# Altium integrated library Lattice FPGA ECP2.IntLib: 320 symbols (part 33 of 42)
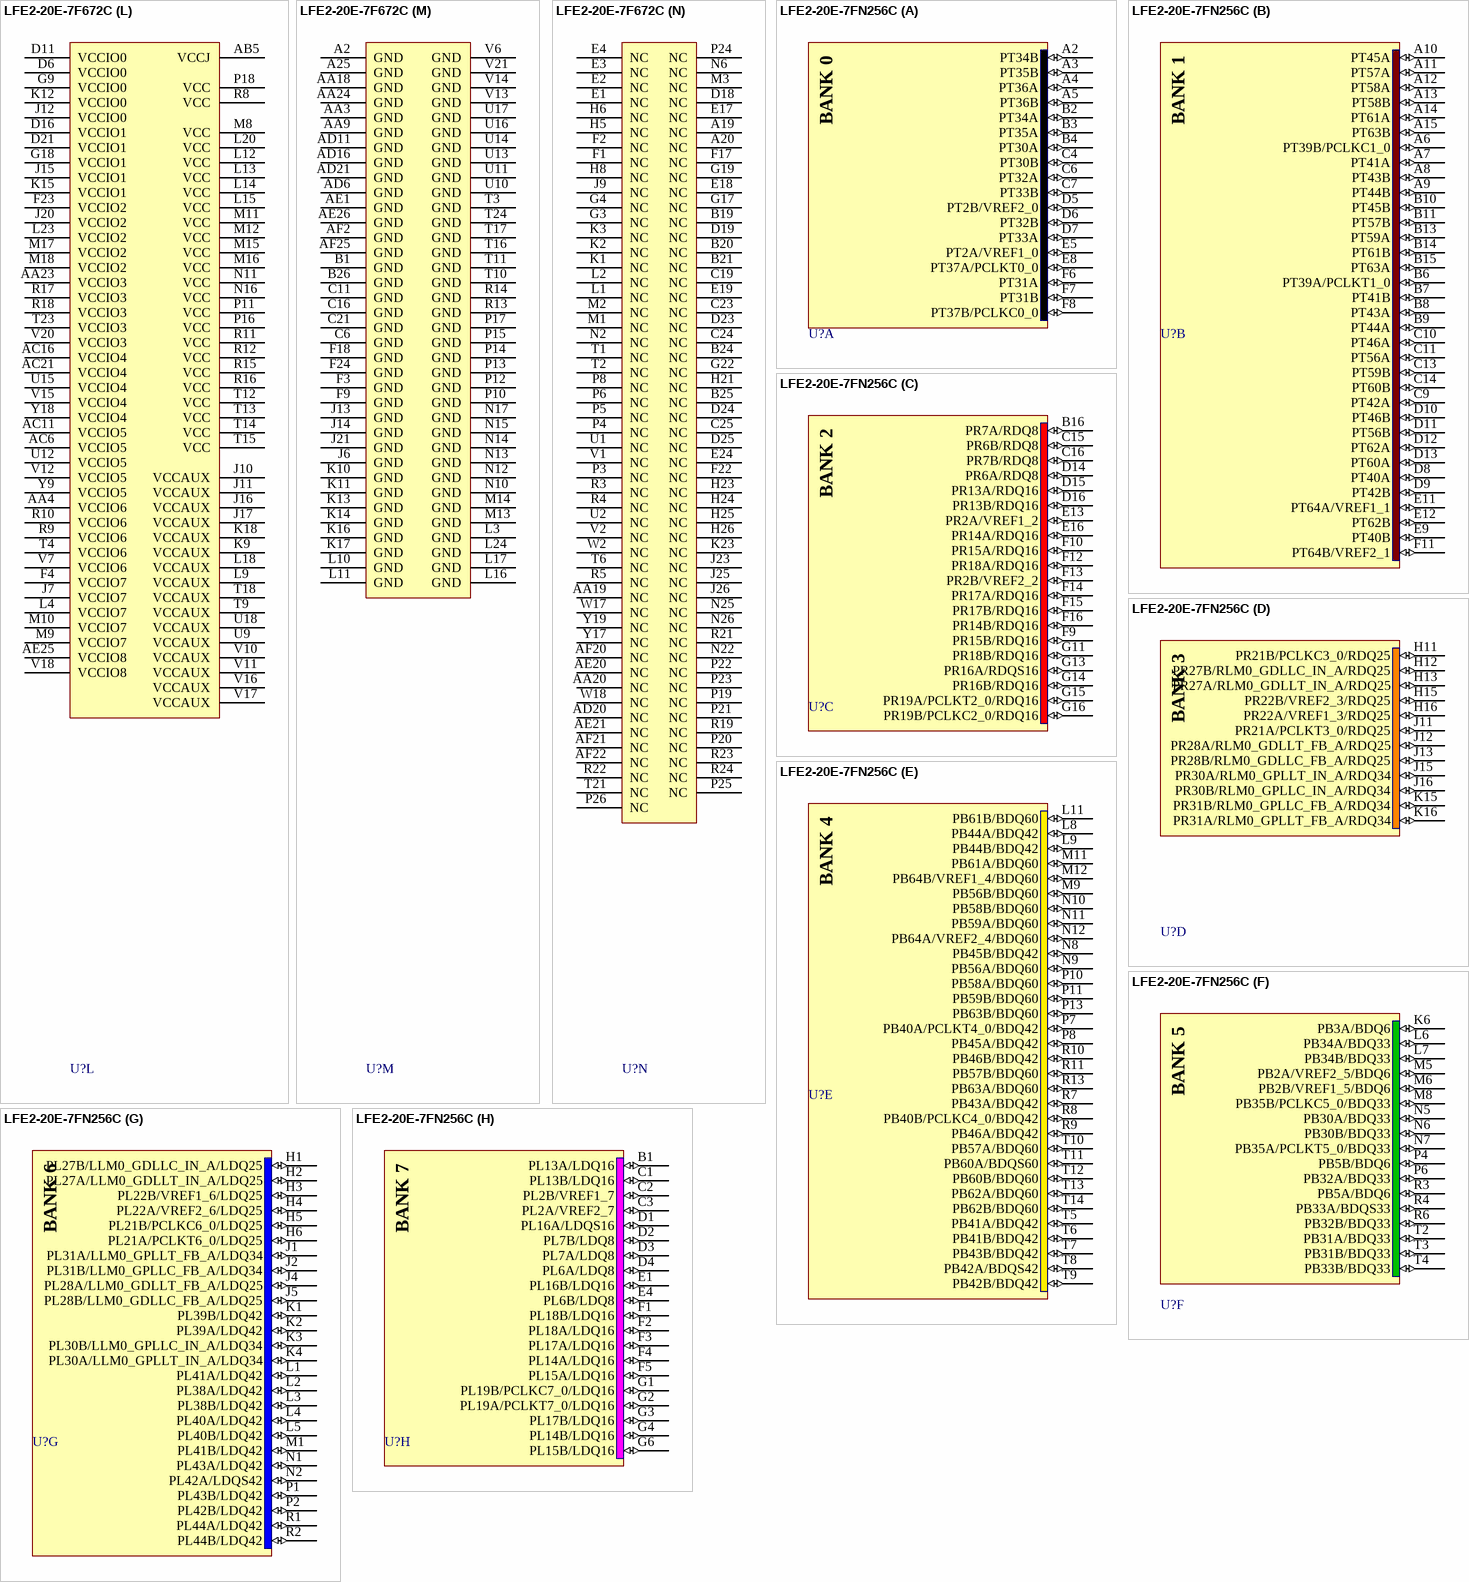
[diagram p419: symbols LFE2-20E-7F672C to LFE2-20E-7FN256C]

## LFE2-20E-7F672C
designator U?
ECP2 1.2V  FPGA, 402 I/Os, 20K LUTs, 672-Ball fpBGA, Speed Grade 7, Commercial Grade; Published: 22-Jan-2007; LatestRevisionDate: 30-Apr-2009; LatestRevisionNote: Pin names updated.; DatasheetVersion: ver04.3, Mar-2009; PackageVersion: ver01.8, Dec-2008; PackageReference: fpBGA672; Publisher: Altium Limited; PackageDescription: 672-Ball Fine Pitch Ball Grid Array (fpBGA672); ComponentLink1Description: Manufacturer Link; ComponentLink1URL: http://www.latticesemi.com/products/fpga/ecp2/index.cfm; ComponentLink2Description: Datasheet; ComponentLink2URL: http://www.latticesemi.com/documents/HB1003.pdf
footprint fpBGA672 (BGA, 672-Leads, Body 27x27mm, Pitch 1mm)
3D model LFE2-20E_F672 (672-Ball Fine Pitch Ball Grid Array (fpBGA672))
part A pins: A3 PT9A (io), A4 PT9B (io), A5 PT18B (io), A6 PT23B (io), A7 PT26B (io), A8 PT28B (io), A9 PT30B (io), A10 PT33B (io), A11 PT36B (io), B2 PT8A (io), B3 PT8B (io), B4 PT13B (io), B5 PT18A (io), B6 PT23A (io), B7 PT26A (io), B8 PT28A (io), B9 PT30A (io), B10 PT33A (io), B11 PT36A (io), C1 PT6A (io), C2 PT6B (io), C3 PT10A (io), C4 PT10B (io), C5 PT14B (io), C7 PT17B (io), C8 PT22A (io), C9 PT27A (io), C10 PT32A (io), C12 PT32B (io), C13 PT35B (io), D3 PT7A (io), D4 PT7B (io), D5 PT14A (io), D7 PT17A (io), D8 PT22B (io), D9 PT20A (io), D10 PT25A (io), D12 PT34B (io), E5 PT3A (io), E6 PT3B (io), E7 PT4B (io), E8 PT16B (io), E9 PT20B (io), E10 PT21A (io), E11 PT27B (io), E12 PT29B (io), E13 PT35A (io), F7 PT4A (io), F8 PT15B (io), F10 PT16A (io), F11 PT21B (io), F12 PT25B (io), F13 PT34A (io), G5 PT2A/VREF1_0 (io), G6 PT2B/VREF2_0 (io), G7 PT5A (io), G8 PT5B (io), G10 PT19B (io), G11 PT24A (io), G12 PT29A (io), G13 PT31B (io), H9 PT15A (io), H10 PT19A (io), H11 PT24B (io), H12 PT31A (io), H13 PT37A/PCLKT0_0 (io), H14 PT37B/PCLKC0_0 (io)
part B pins: A12 PT40B (io), A13 PT44B (io), A14 PT46B (io), A15 PT45A (io), A16 PT48B (io), A17 PT52B (io), A18 PT55A (io), A21 PT56A (io), A22 PT56B (io), A23 PT61A (io), A24 PT61B (io), B12 PT40A (io), B13 PT44A (io), B14 PT46A (io), B15 PT48A (io), B16 PT51A (io), B17 PT52A (io), B18 PT55B (io), B22 PT58B (io), B23 PT58A (io), C14 PT42A (io), C15 PT45B (io), C17 PT50B (io), C18 PT51B (io), C20 PT57B (io), C22 PT59B (io), D13 PT42B (io), D14 PT39A/PCLKT1_0 (io), D15 PT47B (io), D17 PT50A (io), D20 PT57A (io), D22 PT64A/VREF1_1 (io), E14 PT41A (io), E15 PT49B (io), E16 PT54B (io), E20 PT59A (io), E21 PT60B (io), E23 PT64B/VREF2_1 (io), F14 PT39B/PCLKC1_0 (io), F15 PT47A (io), F16 PT53B (io), F19 PT60A (io), F20 PT62B (io), G14 PT41B (io), G15 PT49A (io), G16 PT54A (io), G20 PT63B (io), H15 PT43A (io), H17 PT43B (io), H18 PT53A (io), H19 PT62A (io), J18 PT63A (io)
part C pins: C26 PR4A/RDQ8 (io), D26 PR4B/RDQ8 (io), E22 PR2B/VREF2_2 (io), E25 PR8A/RDQS8 (io), E26 PR8B/RDQ8 (io), F21 PR2A/VREF1_2 (io), F25 PR10A/RDQ8 (io), F26 PR10B/RDQ8 (io), G21 PR3B (io), G23 PR6A/RDQ8 (io), G24 PR6B/RDQ8 (io), G25 PR11A/RDQ8 (io), G26 PR11B/RDQ8 (io), H20 PR3A (io), H22 PR7A/RDQ8 (io), J19 PR5A/RDQ8 (io), J22 PR7B/RDQ8 (io), J24 PR12A/RDQ16 (io), K19 PR5B/RDQ8 (io), K20 PR9B/RDQ8 (io), K21 PR13B/RDQ16 (io), K22 PR18A/RDQ16 (io), K24 PR12B/RDQ16 (io), K25 PR16A/RDQS16 (io), K26 PR16B/RDQ16 (io), L19 PR9A/RDQ8 (io), L21 PR18B/RDQ16 (io), L22 PR14B/RDQ16 (io), M19 PR15A/RDQ16 (io), M20 PR15B/RDQ16 (io), M21 PR13A/RDQ16 (io), M22 PR14A/RDQ16 (io), M23 PR19A/PCLKT2_0/RDQ16 (io), M24 PR17B/RDQ16 (io), N23 PR17A/RDQ16 (io), N24 PR19B/PCLKC2_0/RDQ16 (io)
part D pins: AA26 PR36B/RDQ34 (io), L25 PR21A/PCLKT3_0/RDQ25 (io), L26 PR21B/PCLKC3_0/RDQ25 (io), M25 PR23A/RDQ25 (io), M26 PR23B/RDQ25 (io), N18 PR22B/VREF2_3/RDQ25 (io), N19 PR24B/RDQ25 (io), N20 PR24A/RDQ25 (io), N21 PR22A/VREF1_3/RDQ25 (io), R25 PR25A/RDQS25 (io), R26 PR25B/RDQ25 (io), T19 PR28B/RLM0_GDLLC_FB_A/RDQ25 (io), T20 PR26B/RDQ25 (io), T22 PR26A/RDQ25 (io), T25 PR27B/RLM0_GDLLC_IN_A/RDQ25 (io), T26 PR27A/RLM0_GDLLT_IN_A/RDQ25 (io), U19 PR35A/RDQ34 (io), U20 PR28A/RLM0_GDLLT_FB_A/RDQ25 (io), U21 PR35B/RDQ34 (io), U22 PR31B/RLM0_GPLLC_FB_A/RDQ34 (io), U23 PR31A/RLM0_GPLLT_FB_A/RDQ34 (io), U24 PR30B/RLM0_GPLLC_IN_A/RDQ34 (io), U25 PR30A/RLM0_GPLLT_IN_A/RDQ34 (io), U26 PR32A/RDQ34 (io), V23 PR37A/RDQ34 (io), V24 PR33B/RDQ34 (io), V25 PR33A/RDQ34 (io), V26 PR32B/RDQ34 (io), W24 PR37B/RDQ34 (io), W25 PR34B/RDQ34 (io), W26 PR34A/RDQS34 (io), Y26 PR36A/RDQ34 (io)
part E pins: AA16 PB44A/BDQ42 (io), AA17 PB54B/BDQ51 (io), AA21 PB61B/BDQ60 (io), AB16 PB45B/BDQ42 (io), AB17 PB42A/BDQS42 (io), AB18 PB48B/BDQ51 (io), AB19 PB52A/BDQ51 (io), AB20 PB59A/BDQ60 (io), AB21 PB60A/BDQS60 (io), AB22 PB63B/BDQ60 (io), AB23 PB64B/VREF1_4/BDQ60 (io), AC15 PB40B/PCLKC4_0/BDQ42 (io), AC17 PB45A/BDQ42 (io), AC18 PB50A/BDQ51 (io), AC19 PB51A/BDQS51 (io), AC20 PB59B/BDQ60 (io), AC22 PB60B/BDQ60 (io), AC23 PB58B/BDQ60 (io), AD15 PB40A/PCLKT4_0/BDQ42 (io), AD17 PB49A/BDQ51 (io), AD18 PB49B/BDQ51 (io), AD19 PB50B/BDQ51 (io), AD22 PB56B/BDQ60 (io), AD23 PB58A/BDQ60 (io), AE13 PB41A/BDQ42 (io), AE14 PB43A/BDQ42 (io), AE15 PB46A/BDQ42 (io), AE16 PB47A/BDQ51 (io), AE17 PB51B/BDQ51 (io), AE18 PB53B/BDQ51 (io), AE19 PB52B/BDQ51 (io), AE22 PB56A/BDQ60 (io), AE23 PB57B/BDQ60 (io), AE24 PB62B/BDQ60 (io), AF13 PB41B/BDQ42 (io), AF14 PB43B/BDQ42 (io), AF15 PB46B/BDQ42 (io), AF16 PB47B/BDQ51 (io), AF17 PB53A/BDQ51 (io), AF18 PB55A/BDQ51 (io), AF19 PB55B/BDQ51 (io), AF23 PB57A/BDQ60 (io), AF24 PB62A/BDQ60 (io), W15 PB44B/BDQ42 (io), W16 PB54A/BDQ51 (io), W19 PB61A/BDQ60 (io), Y15 PB42B/BDQ42 (io), Y16 PB48A/BDQ51 (io), Y20 PB63A/BDQ60 (io), Y21 PB64A/VREF2_4/BDQ60 (io)
part F pins: AA6 PB6A/BDQS6 (io), AA7 PB8A/BDQ6 (io), AA10 PB12B/BDQ15 (io), AA11 PB16A/BDQ15 (io), AA12 PB21A/BDQ24 (io), AA13 PB24B/BDQ24 (io), AA14 PB29B/BDQ33 (io), AA15 PB34B/BDQ33 (io), AB6 PB6B/BDQ6 (io), AB7 PB8B/BDQ6 (io), AB8 PB14A/BDQ15 (io), AB9 PB17A/BDQ15 (io), AB10 PB14B/BDQ15 (io), AB11 PB18B/BDQ15 (io), AB12 PB22A/BDQ24 (io), AB13 PB31B/BDQ33 (io), AB14 PB32B/BDQ33 (io), AB15 PB27A/BDQ24 (io), AC4 PB3A/BDQ6 (io), AC5 PB7A/BDQ6 (io), AC7 PB10A/BDQ6 (io), AC8 PB13A/BDQ15 (io), AC9 PB16B/BDQ15 (io), AC10 PB20A/BDQ24 (io), AC12 PB23B/BDQ24 (io), AC13 PB24A/BDQS24 (io), AC14 PB25B/BDQ24 (io), AD4 PB3B/BDQ6 (io), AD5 PB7B/BDQ6 (io), AD7 PB10B/BDQ6 (io), AD8 PB13B/BDQ15 (io), AD9 PB17B/BDQ15 (io), AD10 PB20B/BDQ24 (io), AD12 PB23A/BDQ24 (io), AD13 PB25A/BDQ24 (io), AD14 PB34A/BDQ33 (io), AE3 PB2A/VREF2_5/BDQ6 (io), AE4 PB4A/BDQ6 (io), AE5 PB9A/BDQ6 (io), AE6 PB15A/BDQS15 (io), AE7 PB19A/BDQ15 (io), AE8 PB26A/BDQ24 (io), AE9 PB28A/BDQ24 (io), AE10 PB30A/BDQ33 (io), AE11 PB33A/BDQS33 (io), AE12 PB35A/PCLKT5_0/BDQ33 (io), AF3 PB2B/VREF1_5/BDQ6 (io), AF4 PB4B/BDQ6 (io), AF5 PB9B/BDQ6 (io), AF6 PB15B/BDQ15 (io), AF7 PB19B/BDQ15 (io), AF8 PB26B/BDQ24 (io), AF9 PB28B/BDQ24 (io), AF10 PB30B/BDQ33 (io), AF11 PB33B/BDQ33 (io), AF12 PB35B/PCLKC5_0/BDQ33 (io), V9 PB5A/BDQ6 (io), W9 PB5B/BDQ6 (io), W10 PB11A/BDQ15 (io), W11 PB12A/BDQ15 (io), W12 PB21B/BDQ24 (io), W13 PB29A/BDQ33 (io), W14 PB31A/BDQ33 (io), Y10 PB11B/BDQ15 (io), Y11 PB18A/BDQ15 (io), Y12 PB22B/BDQ24 (io), Y13 PB27B/BDQ24 (io), Y14 PB32A/BDQ33 (io)
part G pins: AA1 PL35A/LDQ34 (io), AA2 PL27B/LLM0_GDLLC_IN_A/LDQ25 (io), AB1 PL35B/LDQ34 (io), AB2 PL42B/LDQ42 (io), AB3 PL42A/LDQS42 (io), AC1 PL39A/LDQ42 (io), AC2 PL45A/LDQ42 (io), AD1 PL39B/LDQ42 (io), AD2 PL41B/LDQ42 (io), AD3 PL45B/LDQ42 (io), AE2 PL41A/LDQ42 (io), M4 PL21A/PCLKT6_0/LDQ25 (io), M5 PL21B/PCLKC6_0/LDQ25 (io), N3 PL23A/LDQ25 (io), N4 PL23B/LDQ25 (io), N5 PL24A/LDQ25 (io), N7 PL22A/VREF2_6/LDQ25 (io), P7 PL24B/LDQ25 (io), P9 PL22B/VREF1_6/LDQ25 (io), R6 PL25A/LDQS25 (io), R7 PL25B/LDQ25 (io), T5 PL28A/LLM0_GDLLT_FB_A/LDQ25 (io), T7 PL28B/LLM0_GDLLC_FB_A/LDQ25 (io), U3 PL30A/LLM0_GPLLT_IN_A/LDQ34 (io), U4 PL30B/LLM0_GPLLC_IN_A/LDQ34 (io), U5 PL31B/LLM0_GPLLC_FB_A/LDQ34 (io), U6 PL37B/LDQ34 (io), U7 PL36B/LDQ34 (io), U8 PL36A/LDQ34 (io), V3 PL31A/LLM0_GPLLT_FB_A/LDQ34 (io), V4 PL32A/LDQ34 (io), V5 PL32B/LDQ34 (io), V8 PL37A/LDQ34 (io), W1 PL26A/LDQ25 (io), W3 PL34A/LDQS34 (io), W4 PL34B/LDQ34 (io), W5 PL38B/LDQ42 (io), W6 PL38A/LDQ42 (io), W7 PL43A/LDQ42 (io), W8 PL43B/LDQ42 (io), Y1 PL27A/LLM0_GDLLT_IN_A/LDQ25 (io), Y2 PL26B/LDQ25 (io), Y3 PL33A/LDQ34 (io), Y4 PL33B/LDQ34 (io), Y5 PL40B/LDQ42 (io), Y6 PL40A/LDQ42 (io), Y7 PL44A/LDQ42 (io), Y8 PL44B/LDQ42 (io)
part H pins: D1 PL2B/VREF1_7 (io), D2 PL2A/VREF2_7 (io), F5 PL3B (io), F6 PL3A (io), G1 PL5B/LDQ8 (io), G2 PL5A/LDQ8 (io), H1 PL9A/LDQ8 (io), H2 PL9B/LDQ8 (io), H3 PL6A/LDQ8 (io), H4 PL6B/LDQ8 (io), H7 PL4A/LDQ8 (io), J1 PL11A/LDQ8 (io), J2 PL11B/LDQ8 (io), J3 PL8A/LDQS8 (io), J4 PL7B/LDQ8 (io), J5 PL7A/LDQ8 (io), J8 PL4B/LDQ8 (io), K4 PL8B/LDQ8 (io), K5 PL14B/LDQ16 (io), K6 PL10A/LDQ8 (io), K7 PL10B/LDQ8 (io), K8 PL13B/LDQ16 (io), L5 PL15B/LDQ16 (io), L6 PL14A/LDQ16 (io), L7 PL15A/LDQ16 (io), L8 PL13A/LDQ16 (io), M6 PL17A/LDQ16 (io), M7 PL19A/PCLKT7_0/LDQ16 (io), N1 PL12A/LDQ16 (io), N8 PL17B/LDQ16 (io), N9 PL19B/PCLKC7_0/LDQ16 (io), P1 PL16A/LDQS16 (io), P2 PL16B/LDQ16 (io), R1 PL18A/LDQ16 (io), R2 PL18B/LDQ16 (io)
part I pins: AA25 PR40B/D5 (io), AB25 PR43A/D0/SPIFASTN (io), AB26 PR40A/D6 (io), AC25 PR43B/CSN (io), AC26 PR42A/D2 (io), AD26 PR42B/D1 (io), V22 PR39A/DI/CSSPI0N (io), W21 PR44B/WRITEN (io), W22 PR41A/D4 (io), W23 PR39B/D7 (io), Y22 PR44A/CS1N (io), Y23 PR41B/D3 (io), Y24 PR38B/DOUT/CSON (io), Y25 PR38A/BUSY/SISPI (io)
part J pins: H16 XRES, R20 RLM0_PLLCAP, T8 LLM0_PLLCAP
part K pins: AA5 TDO (out), AA8 TDI (in), AA22 CCLK (io), AB4 TMS (in), AB24 INITN (io), AC3 TCK (in), AC24 CFG0 (in), AD24 CFG2 (in), AD25 DONE (io), V19 PROGRAMN (in), W20 CFG1 (in)
part L pins: AA4 VCCIO6 (power), AA23 VCCIO3 (power), AB5 VCCJ (power), AC6 VCCIO5 (power), AC11 VCCIO5 (power), AC16 VCCIO4 (power), AC21 VCCIO4 (power), AE25 VCCIO8 (power), D6 VCCIO0 (power), D11 VCCIO0 (power), D16 VCCIO1 (power), D21 VCCIO1 (power), F4 VCCIO7 (power), F23 VCCIO2 (power), G9 VCCIO0 (power), G18 VCCIO1 (power), J7 VCCIO7 (power), J10 VCCAUX (power), J11 VCCAUX (power), J12 VCCIO0 (power), J15 VCCIO1 (power), J16 VCCAUX (power), J17 VCCAUX (power), J20 VCCIO2 (power), K9 VCCAUX (power), K12 VCCIO0 (power), K15 VCCIO1 (power), K18 VCCAUX (power), L4 VCCIO7 (power), L9 VCCAUX (power), L12 VCC (power), L13 VCC (power), L14 VCC (power), L15 VCC (power), L18 VCCAUX (power), L20 VCC (power), L23 VCCIO2 (power), M8 VCC (power), M9 VCCIO7 (power), M10 VCCIO7 (power), M11 VCC (power), M12 VCC (power), M15 VCC (power), M16 VCC (power), M17 VCCIO2 (power), M18 VCCIO2 (power), N11 VCC (power), N16 VCC (power), P11 VCC (power), P16 VCC (power), P18 VCC (power), R8 VCC (power), R9 VCCIO6 (power), R10 VCCIO6 (power), R11 VCC (power), R12 VCC (power), R15 VCC (power), R16 VCC (power), R17 VCCIO3 (power), R18 VCCIO3 (power), T4 VCCIO6 (power), T9 VCCAUX (power), T12 VCC (power), T13 VCC (power), T14 VCC (power), T15 VCC (power), T18 VCCAUX (power), T23 VCCIO3 (power), U9 VCCAUX (power), U12 VCCIO5 (power), U15 VCCIO4 (power), U18 VCCAUX (power), V7 VCCIO6 (power), V10 VCCAUX (power), V11 VCCAUX (power), V12 VCCIO5 (power), V15 VCCIO4 (power), V16 VCCAUX (power), V17 VCCAUX (power), V18 VCCIO8 (power), V20 VCCIO3 (power), Y9 VCCIO5 (power), Y18 VCCIO4 (power)
part M pins: A2 GND (power), A25 GND (power), AA3 GND (power), AA9 GND (power), AA18 GND (power), AA24 GND (power), AD6 GND (power), AD11 GND (power), AD16 GND (power), AD21 GND (power), AE1 GND (power), AE26 GND (power), AF2 GND (power), AF25 GND (power), B1 GND (power), B26 GND (power), C6 GND (power), C11 GND (power), C16 GND (power), C21 GND (power), F3 GND (power), F9 GND (power), F18 GND (power), F24 GND (power), J6 GND (power), J13 GND (power), J14 GND (power), J21 GND (power), K10 GND (power), K11 GND (power), K13 GND (power), K14 GND (power), K16 GND (power), K17 GND (power), L3 GND (power), L10 GND (power), L11 GND (power), L16 GND (power), L17 GND (power), L24 GND (power), M13 GND (power), M14 GND (power), N10 GND (power), N12 GND (power), N13 GND (power), N14 GND (power), N15 GND (power), N17 GND (power), P10 GND (power), P12 GND (power), P13 GND (power), P14 GND (power), P15 GND (power), P17 GND (power), R13 GND (power), R14 GND (power), T3 GND (power), T10 GND (power), T11 GND (power), T16 GND (power), T17 GND (power), T24 GND (power), U10 GND (power), U11 GND (power), U13 GND (power), U14 GND (power), U16 GND (power), U17 GND (power), V6 GND (power), V13 GND (power), V14 GND (power), V21 GND (power)
part N pins: A19 NC, A20 NC, AA19 NC, AA20 NC, AD20 NC, AE20 NC, AE21 NC, AF20 NC, AF21 NC, AF22 NC, B19 NC, B20 NC, B21 NC, B24 NC, B25 NC, C19 NC, C23 NC, C24 NC, C25 NC, D18 NC, D19 NC, D23 NC, D24 NC, D25 NC, E1 NC, E2 NC, E3 NC, E4 NC, E17 NC, E18 NC, E19 NC, E24 NC, F1 NC, F2 NC, F17 NC, F22 NC, G3 NC, G4 NC, G17 NC, G19 NC, G22 NC, H5 NC, H6 NC, H8 NC, H21 NC, H23 NC, H24 NC, H25 NC, H26 NC, J9 NC, J23 NC, J25 NC, J26 NC, K1 NC, K2 NC, K3 NC, K23 NC, L1 NC, L2 NC, M1 NC, M2 NC, M3 NC, N2 NC, N6 NC, N22 NC, N25 NC, N26 NC, P3 NC, P4 NC, P5 NC, P6 NC, P8 NC, P19 NC, P20 NC, P21 NC, P22 NC, P23 NC, P24 NC, P25 NC, P26 NC, R3 NC, R4 NC, R5 NC, R19 NC, R21 NC, R22 NC, R23 NC, R24 NC, T1 NC, T2 NC, T6 NC, T21 NC, U1 NC, U2 NC, V1 NC, V2 NC, W2 NC, W17 NC, W18 NC, Y17 NC, Y19 NC
part A text: BANK 0
part B text: BANK 1
part C text: BANK 2
part D text: BANK 3
part E text: BANK 4
part F text: BANK 5
part G text: BANK 6
part H text: BANK 7
part I text: BANK 8

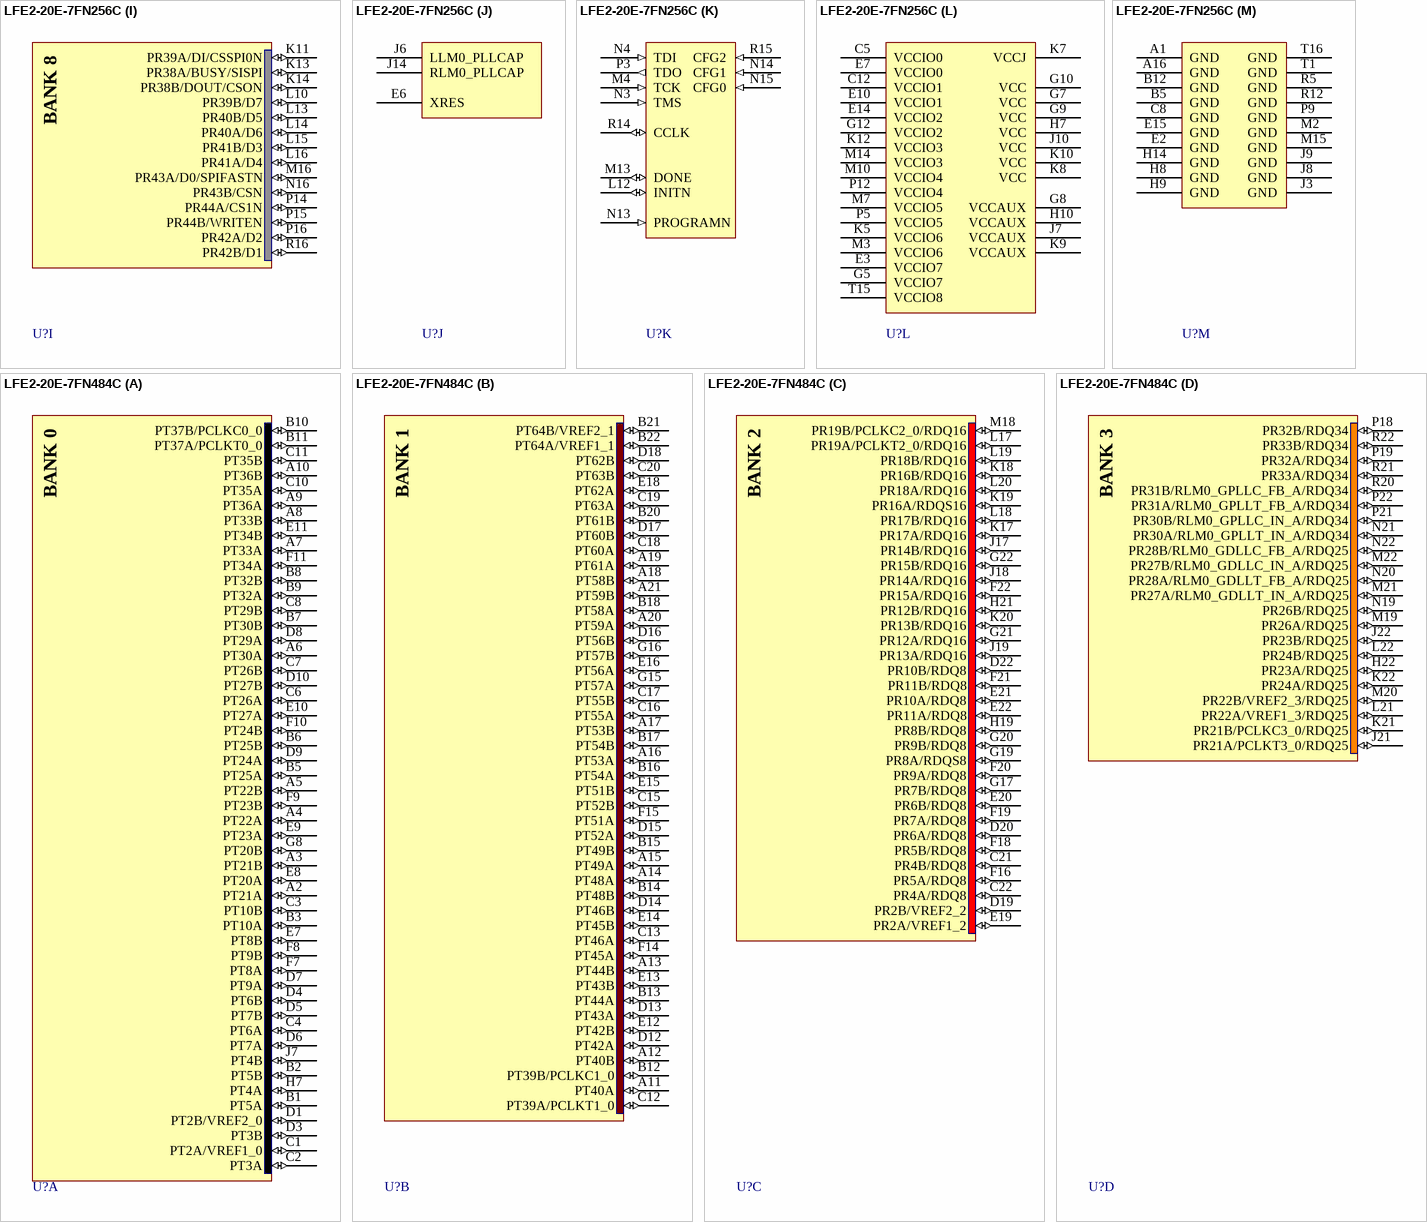
[diagram p199: symbols LFE2-20E-7FN256C to LFE2-20E-7FN484C]

## LFE2-20E-7FN256C
designator U?
ECP2 1.2V  FPGA, 193 I/Os, 20K LUTs, 256-Ball fpBGA, Speed Grade 7, Commercial Grade, Pb-Free; Published: 22-Jan-2007; LatestRevisionDate: 30-Apr-2009; LatestRevisionNote: Pin names updated.; DatasheetVersion: ver04.3, Mar-2009; PackageVersion: ver01.8, Dec-2008; PackageReference: fpBGA256; Publisher: Altium Limited; PackageDescription: 256-Ball Fine Pitch Ball Grid Array (fpBGA256); Code_IPC: BGA100P16X16-256; ComponentLink1Description: Manufacturer Link; ComponentLink1URL: http://www.latticesemi.com/products/fpga/ecp2/index.cfm; ComponentLink2Description: Datasheet; ComponentLink2URL: http://www.latticesemi.com/documents/HB1003.pdf
footprint fpBGA256 (BGA, 256-Leads, Body 17x17mm, Pitch 1mm)
3D model LFE2-20E_F256 (256-Ball Fine Pitch Ball Grid Array (fpBGA256))
part A pins: A2 PT34B (io), A3 PT35B (io), A4 PT36A (io), A5 PT36B (io), B2 PT34A (io), B3 PT35A (io), B4 PT30A (io), C4 PT30B (io), C6 PT32A (io), C7 PT33B (io), D5 PT2B/VREF2_0 (io), D6 PT32B (io), D7 PT33A (io), E5 PT2A/VREF1_0 (io), E8 PT37A/PCLKT0_0 (io), F6 PT31A (io), F7 PT31B (io), F8 PT37B/PCLKC0_0 (io)
part B pins: A6 PT39B/PCLKC1_0 (io), A7 PT41A (io), A8 PT43B (io), A9 PT44B (io), A10 PT45A (io), A11 PT57A (io), A12 PT58A (io), A13 PT58B (io), A14 PT61A (io), A15 PT63B (io), B6 PT39A/PCLKT1_0 (io), B7 PT41B (io), B8 PT43A (io), B9 PT44A (io), B10 PT45B (io), B11 PT57B (io), B13 PT59A (io), B14 PT61B (io), B15 PT63A (io), C9 PT42A (io), C10 PT46A (io), C11 PT56A (io), C13 PT59B (io), C14 PT60B (io), D8 PT40A (io), D9 PT42B (io), D10 PT46B (io), D11 PT56B (io), D12 PT62A (io), D13 PT60A (io), E9 PT40B (io), E11 PT64A/VREF1_1 (io), E12 PT62B (io), F11 PT64B/VREF2_1 (io)
part C pins: B16 PR7A/RDQ8 (io), C15 PR6B/RDQ8 (io), C16 PR7B/RDQ8 (io), D14 PR6A/RDQ8 (io), D15 PR13A/RDQ16 (io), D16 PR13B/RDQ16 (io), E13 PR2A/VREF1_2 (io), E16 PR14A/RDQ16 (io), F9 PR15B/RDQ16 (io), F10 PR15A/RDQ16 (io), F12 PR18A/RDQ16 (io), F13 PR2B/VREF2_2 (io), F14 PR17A/RDQ16 (io), F15 PR17B/RDQ16 (io), F16 PR14B/RDQ16 (io), G11 PR18B/RDQ16 (io), G13 PR16A/RDQS16 (io), G14 PR16B/RDQ16 (io), G15 PR19A/PCLKT2_0/RDQ16 (io), G16 PR19B/PCLKC2_0/RDQ16 (io)
part D pins: H11 PR21B/PCLKC3_0/RDQ25 (io), H12 PR27B/RLM0_GDLLC_IN_A/RDQ25 (io), H13 PR27A/RLM0_GDLLT_IN_A/RDQ25 (io), H15 PR22B/VREF2_3/RDQ25 (io), H16 PR22A/VREF1_3/RDQ25 (io), J11 PR21A/PCLKT3_0/RDQ25 (io), J12 PR28A/RLM0_GDLLT_FB_A/RDQ25 (io), J13 PR28B/RLM0_GDLLC_FB_A/RDQ25 (io), J15 PR30A/RLM0_GPLLT_IN_A/RDQ34 (io), J16 PR30B/RLM0_GPLLC_IN_A/RDQ34 (io), K15 PR31B/RLM0_GPLLC_FB_A/RDQ34 (io), K16 PR31A/RLM0_GPLLT_FB_A/RDQ34 (io)
part E pins: L8 PB44A/BDQ42 (io), L9 PB44B/BDQ42 (io), L11 PB61B/BDQ60 (io), M9 PB56B/BDQ60 (io), M11 PB61A/BDQ60 (io), M12 PB64B/VREF1_4/BDQ60 (io), N8 PB45B/BDQ42 (io), N9 PB56A/BDQ60 (io), N10 PB58B/BDQ60 (io), N11 PB59A/BDQ60 (io), N12 PB64A/VREF2_4/BDQ60 (io), P7 PB40A/PCLKT4_0/BDQ42 (io), P8 PB45A/BDQ42 (io), P10 PB58A/BDQ60 (io), P11 PB59B/BDQ60 (io), P13 PB63B/BDQ60 (io), R7 PB43A/BDQ42 (io), R8 PB40B/PCLKC4_0/BDQ42 (io), R9 PB46A/BDQ42 (io), R10 PB46B/BDQ42 (io), R11 PB57B/BDQ60 (io), R13 PB63A/BDQ60 (io), T5 PB41A/BDQ42 (io), T6 PB41B/BDQ42 (io), T7 PB43B/BDQ42 (io), T8 PB42A/BDQS42 (io), T9 PB42B/BDQ42 (io), T10 PB57A/BDQ60 (io), T11 PB60A/BDQS60 (io), T12 PB60B/BDQ60 (io), T13 PB62A/BDQ60 (io), T14 PB62B/BDQ60 (io)
part F pins: K6 PB3A/BDQ6 (io), L6 PB34A/BDQ33 (io), L7 PB34B/BDQ33 (io), M5 PB2A/VREF2_5/BDQ6 (io), M6 PB2B/VREF1_5/BDQ6 (io), M8 PB35B/PCLKC5_0/BDQ33 (io), N5 PB30A/BDQ33 (io), N6 PB30B/BDQ33 (io), N7 PB35A/PCLKT5_0/BDQ33 (io), P4 PB5B/BDQ6 (io), P6 PB32A/BDQ33 (io), R3 PB5A/BDQ6 (io), R4 PB33A/BDQS33 (io), R6 PB32B/BDQ33 (io), T2 PB31A/BDQ33 (io), T3 PB31B/BDQ33 (io), T4 PB33B/BDQ33 (io)
part G pins: H1 PL27B/LLM0_GDLLC_IN_A/LDQ25 (io), H2 PL27A/LLM0_GDLLT_IN_A/LDQ25 (io), H3 PL22B/VREF1_6/LDQ25 (io), H4 PL22A/VREF2_6/LDQ25 (io), H5 PL21B/PCLKC6_0/LDQ25 (io), H6 PL21A/PCLKT6_0/LDQ25 (io), J1 PL31A/LLM0_GPLLT_FB_A/LDQ34 (io), J2 PL31B/LLM0_GPLLC_FB_A/LDQ34 (io), J4 PL28A/LLM0_GDLLT_FB_A/LDQ25 (io), J5 PL28B/LLM0_GDLLC_FB_A/LDQ25 (io), K1 PL39B/LDQ42 (io), K2 PL39A/LDQ42 (io), K3 PL30B/LLM0_GPLLC_IN_A/LDQ34 (io), K4 PL30A/LLM0_GPLLT_IN_A/LDQ34 (io), L1 PL41A/LDQ42 (io), L2 PL38A/LDQ42 (io), L3 PL38B/LDQ42 (io), L4 PL40A/LDQ42 (io), L5 PL40B/LDQ42 (io), M1 PL41B/LDQ42 (io), N1 PL43A/LDQ42 (io), N2 PL42A/LDQS42 (io), P1 PL43B/LDQ42 (io), P2 PL42B/LDQ42 (io), R1 PL44A/LDQ42 (io), R2 PL44B/LDQ42 (io)
part H pins: B1 PL13A/LDQ16 (io), C1 PL13B/LDQ16 (io), C2 PL2B/VREF1_7 (io), C3 PL2A/VREF2_7 (io), D1 PL16A/LDQS16 (io), D2 PL7B/LDQ8 (io), D3 PL7A/LDQ8 (io), D4 PL6A/LDQ8 (io), E1 PL16B/LDQ16 (io), E4 PL6B/LDQ8 (io), F1 PL18B/LDQ16 (io), F2 PL18A/LDQ16 (io), F3 PL17A/LDQ16 (io), F4 PL14A/LDQ16 (io), F5 PL15A/LDQ16 (io), G1 PL19B/PCLKC7_0/LDQ16 (io), G2 PL19A/PCLKT7_0/LDQ16 (io), G3 PL17B/LDQ16 (io), G4 PL14B/LDQ16 (io), G6 PL15B/LDQ16 (io)
part I pins: K11 PR39A/DI/CSSPI0N (io), K13 PR38A/BUSY/SISPI (io), K14 PR38B/DOUT/CSON (io), L10 PR39B/D7 (io), L13 PR40B/D5 (io), L14 PR40A/D6 (io), L15 PR41B/D3 (io), L16 PR41A/D4 (io), M16 PR43A/D0/SPIFASTN (io), N16 PR43B/CSN (io), P14 PR44A/CS1N (io), P15 PR44B/WRITEN (io), P16 PR42A/D2 (io), R16 PR42B/D1 (io)
part J pins: E6 XRES, J6 LLM0_PLLCAP, J14 RLM0_PLLCAP
part K pins: L12 INITN (io), M4 TCK (in), M13 DONE (io), N3 TMS (in), N4 TDI (in), N13 PROGRAMN (in), N14 CFG1 (in), N15 CFG0 (in), P3 TDO (out), R14 CCLK (io), R15 CFG2 (in)
part L pins: C5 VCCIO0 (power), C12 VCCIO1 (power), E3 VCCIO7 (power), E7 VCCIO0 (power), E10 VCCIO1 (power), E14 VCCIO2 (power), G5 VCCIO7 (power), G7 VCC (power), G8 VCCAUX (power), G9 VCC (power), G10 VCC (power), G12 VCCIO2 (power), H7 VCC (power), H10 VCCAUX (power), J7 VCCAUX (power), J10 VCC (power), K5 VCCIO6 (power), K7 VCCJ (power), K8 VCC (power), K9 VCCAUX (power), K10 VCC (power), K12 VCCIO3 (power), M3 VCCIO6 (power), M7 VCCIO5 (power), M10 VCCIO4 (power), M14 VCCIO3 (power), P5 VCCIO5 (power), P12 VCCIO4 (power), T15 VCCIO8 (power)
part M pins: A1 GND (power), A16 GND (power), B5 GND (power), B12 GND (power), C8 GND (power), E2 GND (power), E15 GND (power), H8 GND (power), H9 GND (power), H14 GND (power), J3 GND (power), J8 GND (power), J9 GND (power), M2 GND (power), M15 GND (power), P9 GND (power), R5 GND (power), R12 GND (power), T1 GND (power), T16 GND (power)
part A text: BANK 0
part B text: BANK 1
part C text: BANK 2
part D text: BANK 3
part E text: BANK 4
part F text: BANK 5
part G text: BANK 6
part H text: BANK 7
part I text: BANK 8

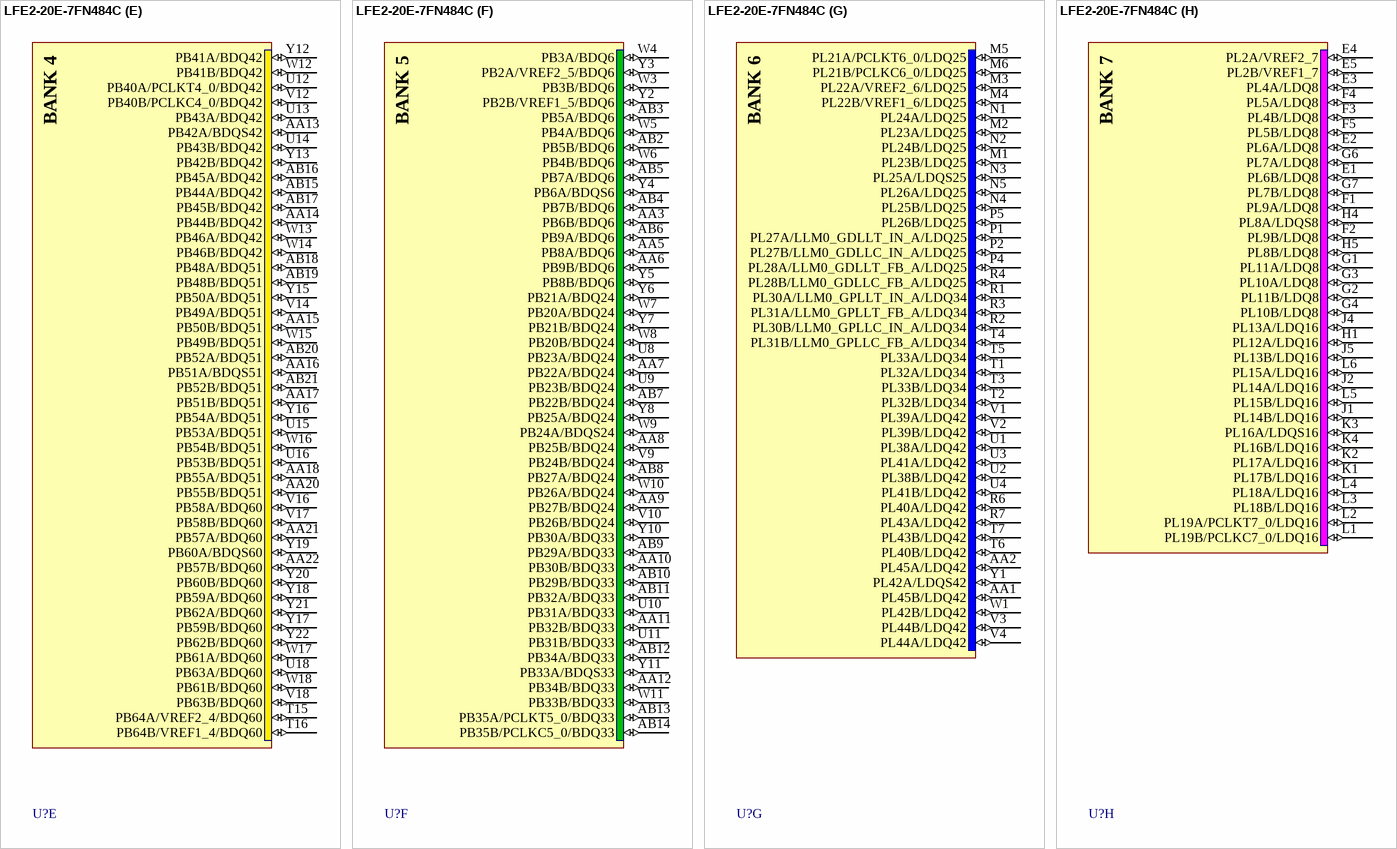
[diagram p200: symbol LFE2-20E-7FN484C]

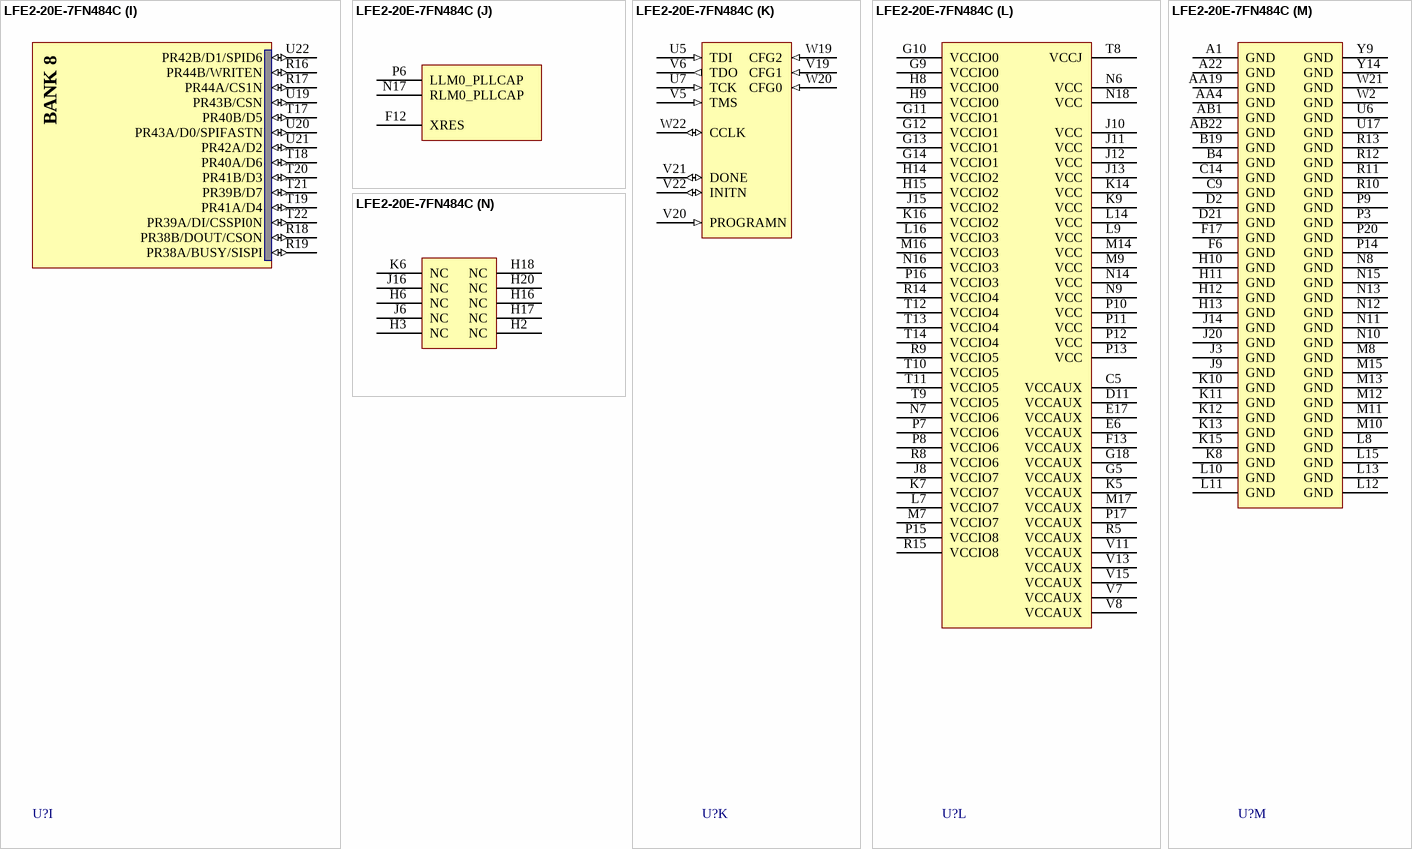
[diagram p201: symbol LFE2-20E-7FN484C]

## LFE2-20E-7FN484C
designator U?
ECP2 1.2V  FPGA, 331 I/Os, 20K LUTs, 484-Ball fpBGA, Speed Grade 7, Commercial Grade, Pb-Free; Published: 22-Jan-2007; LatestRevisionDate: 30-Apr-2009; LatestRevisionNote: Pin names updated.; DatasheetVersion: ver04.3, Mar-2009; PackageVersion: ver01.8, Dec-2008; PackageReference: fpBGA484; Publisher: Altium Limited; PackageDescription: 484-Ball Fine Pitch Ball Grid Array (fpBGA484); Code_IPC: BGA100P22X22-484; ComponentLink1Description: Manufacturer Link; ComponentLink1URL: http://www.latticesemi.com/products/fpga/ecp2/index.cfm; ComponentLink2Description: Datasheet; ComponentLink2URL: http://www.latticesemi.com/documents/HB1003.pdf
footprint fpBGA484 (BGA, 484-Leads, Body 23x23mm, Pitch 1mm)
3D model LFE2-20E_F484 (484-Ball Fine Pitch Ball Grid Array (fpBGA484))
part A pins: A2 PT21A (io), A3 PT21B (io), A4 PT22A (io), A5 PT22B (io), A6 PT30A (io), A7 PT33A (io), A8 PT33B (io), A9 PT36A (io), A10 PT36B (io), B1 PT5A (io), B2 PT5B (io), B3 PT10A (io), B5 PT25A (io), B6 PT25B (io), B7 PT30B (io), B8 PT32B (io), B9 PT32A (io), B10 PT37B/PCLKC0_0 (io), B11 PT37A/PCLKT0_0 (io), C1 PT2A/VREF1_0 (io), C2 PT3A (io), C3 PT10B (io), C4 PT6A (io), C6 PT26A (io), C7 PT26B (io), C8 PT29B (io), C10 PT35A (io), C11 PT35B (io), D1 PT2B/VREF2_0 (io), D3 PT3B (io), D4 PT6B (io), D5 PT7B (io), D6 PT7A (io), D7 PT9A (io), D8 PT29A (io), D9 PT24A (io), D10 PT27B (io), E7 PT8B (io), E8 PT20A (io), E9 PT23A (io), E10 PT27A (io), E11 PT34B (io), F7 PT8A (io), F8 PT9B (io), F9 PT23B (io), F10 PT24B (io), F11 PT34A (io), G8 PT20B (io), H7 PT4A (io), J7 PT4B (io)
part B pins: A11 PT40A (io), A12 PT40B (io), A13 PT44B (io), A14 PT48A (io), A15 PT49A (io), A16 PT53A (io), A17 PT53B (io), A18 PT58B (io), A19 PT61A (io), A20 PT59A (io), A21 PT59B (io), B12 PT39B/PCLKC1_0 (io), B13 PT44A (io), B14 PT48B (io), B15 PT49B (io), B16 PT54A (io), B17 PT54B (io), B18 PT58A (io), B20 PT61B (io), B21 PT64B/VREF2_1 (io), B22 PT64A/VREF1_1 (io), C12 PT39A/PCLKT1_0 (io), C13 PT46A (io), C15 PT52B (io), C16 PT55A (io), C17 PT55B (io), C18 PT60A (io), C19 PT63A (io), C20 PT63B (io), D12 PT42A (io), D13 PT43A (io), D14 PT46B (io), D15 PT52A (io), D16 PT56B (io), D17 PT60B (io), D18 PT62B (io), E12 PT42B (io), E13 PT43B (io), E14 PT45B (io), E15 PT51B (io), E16 PT56A (io), E18 PT62A (io), F14 PT45A (io), F15 PT51A (io), G15 PT57A (io), G16 PT57B (io)
part C pins: C21 PR4B/RDQ8 (io), C22 PR4A/RDQ8 (io), D19 PR2B/VREF2_2 (io), D20 PR6A/RDQ8 (io), D22 PR10B/RDQ8 (io), E19 PR2A/VREF1_2 (io), E20 PR6B/RDQ8 (io), E21 PR10A/RDQ8 (io), E22 PR11A/RDQ8 (io), F16 PR5A/RDQ8 (io), F18 PR5B/RDQ8 (io), F19 PR7A/RDQ8 (io), F20 PR9A/RDQ8 (io), F21 PR11B/RDQ8 (io), F22 PR15A/RDQ16 (io), G17 PR7B/RDQ8 (io), G19 PR8A/RDQS8 (io), G20 PR9B/RDQ8 (io), G21 PR12A/RDQ16 (io), G22 PR15B/RDQ16 (io), H19 PR8B/RDQ8 (io), H21 PR12B/RDQ16 (io), J17 PR14B/RDQ16 (io), J18 PR14A/RDQ16 (io), J19 PR13A/RDQ16 (io), K17 PR17A/RDQ16 (io), K18 PR16B/RDQ16 (io), K19 PR16A/RDQS16 (io), K20 PR13B/RDQ16 (io), L17 PR19A/PCLKT2_0/RDQ16 (io), L18 PR17B/RDQ16 (io), L19 PR18B/RDQ16 (io), L20 PR18A/RDQ16 (io), M18 PR19B/PCLKC2_0/RDQ16 (io)
part D pins: H22 PR23A/RDQ25 (io), J21 PR21A/PCLKT3_0/RDQ25 (io), J22 PR23B/RDQ25 (io), K21 PR21B/PCLKC3_0/RDQ25 (io), K22 PR24A/RDQ25 (io), L21 PR22A/VREF1_3/RDQ25 (io), L22 PR24B/RDQ25 (io), M19 PR26A/RDQ25 (io), M20 PR22B/VREF2_3/RDQ25 (io), M21 PR27A/RLM0_GDLLT_IN_A/RDQ25 (io), M22 PR27B/RLM0_GDLLC_IN_A/RDQ25 (io), N19 PR26B/RDQ25 (io), N20 PR28A/RLM0_GDLLT_FB_A/RDQ25 (io), N21 PR30A/RLM0_GPLLT_IN_A/RDQ34 (io), N22 PR28B/RLM0_GDLLC_FB_A/RDQ25 (io), P18 PR32B/RDQ34 (io), P19 PR32A/RDQ34 (io), P21 PR30B/RLM0_GPLLC_IN_A/RDQ34 (io), P22 PR31A/RLM0_GPLLT_FB_A/RDQ34 (io), R20 PR31B/RLM0_GPLLC_FB_A/RDQ34 (io), R21 PR33A/RDQ34 (io), R22 PR33B/RDQ34 (io)
part E pins: AA13 PB42A/BDQS42 (io), AA14 PB44B/BDQ42 (io), AA15 PB50B/BDQ51 (io), AA16 PB51A/BDQS51 (io), AA17 PB51B/BDQ51 (io), AA18 PB55A/BDQ51 (io), AA20 PB55B/BDQ51 (io), AA21 PB57A/BDQ60 (io), AA22 PB57B/BDQ60 (io), AB15 PB44A/BDQ42 (io), AB16 PB45A/BDQ42 (io), AB17 PB45B/BDQ42 (io), AB18 PB48A/BDQ51 (io), AB19 PB48B/BDQ51 (io), AB20 PB52A/BDQ51 (io), AB21 PB52B/BDQ51 (io), T15 PB64A/VREF2_4/BDQ60 (io), T16 PB64B/VREF1_4/BDQ60 (io), U12 PB40A/PCLKT4_0/BDQ42 (io), U13 PB43A/BDQ42 (io), U14 PB43B/BDQ42 (io), U15 PB53A/BDQ51 (io), U16 PB53B/BDQ51 (io), U18 PB63A/BDQ60 (io), V12 PB40B/PCLKC4_0/BDQ42 (io), V14 PB49A/BDQ51 (io), V16 PB58A/BDQ60 (io), V17 PB58B/BDQ60 (io), V18 PB63B/BDQ60 (io), W12 PB41B/BDQ42 (io), W13 PB46A/BDQ42 (io), W14 PB46B/BDQ42 (io), W15 PB49B/BDQ51 (io), W16 PB54B/BDQ51 (io), W17 PB61A/BDQ60 (io), W18 PB61B/BDQ60 (io), Y12 PB41A/BDQ42 (io), Y13 PB42B/BDQ42 (io), Y15 PB50A/BDQ51 (io), Y16 PB54A/BDQ51 (io), Y17 PB59B/BDQ60 (io), Y18 PB59A/BDQ60 (io), Y19 PB60A/BDQS60 (io), Y20 PB60B/BDQ60 (io), Y21 PB62A/BDQ60 (io), Y22 PB62B/BDQ60 (io)
part F pins: AA3 PB6B/BDQ6 (io), AA5 PB8A/BDQ6 (io), AA6 PB9B/BDQ6 (io), AA7 PB22A/BDQ24 (io), AA8 PB25B/BDQ24 (io), AA9 PB27B/BDQ24 (io), AA10 PB30B/BDQ33 (io), AA11 PB32B/BDQ33 (io), AA12 PB34B/BDQ33 (io), AB2 PB5B/BDQ6 (io), AB3 PB5A/BDQ6 (io), AB4 PB7B/BDQ6 (io), AB5 PB7A/BDQ6 (io), AB6 PB9A/BDQ6 (io), AB7 PB22B/BDQ24 (io), AB8 PB27A/BDQ24 (io), AB9 PB29A/BDQ33 (io), AB10 PB29B/BDQ33 (io), AB11 PB32A/BDQ33 (io), AB12 PB34A/BDQ33 (io), AB13 PB35A/PCLKT5_0/BDQ33 (io), AB14 PB35B/PCLKC5_0/BDQ33 (io), U8 PB23A/BDQ24 (io), U9 PB23B/BDQ24 (io), U10 PB31A/BDQ33 (io), U11 PB31B/BDQ33 (io), V9 PB24B/BDQ24 (io), V10 PB26B/BDQ24 (io), W3 PB3B/BDQ6 (io), W4 PB3A/BDQ6 (io), W5 PB4A/BDQ6 (io), W6 PB4B/BDQ6 (io), W7 PB20A/BDQ24 (io), W8 PB20B/BDQ24 (io), W9 PB24A/BDQS24 (io), W10 PB26A/BDQ24 (io), W11 PB33B/BDQ33 (io), Y2 PB2B/VREF1_5/BDQ6 (io), Y3 PB2A/VREF2_5/BDQ6 (io), Y4 PB6A/BDQS6 (io), Y5 PB8B/BDQ6 (io), Y6 PB21A/BDQ24 (io), Y7 PB21B/BDQ24 (io), Y8 PB25A/BDQ24 (io), Y10 PB30A/BDQ33 (io), Y11 PB33A/BDQS33 (io)
part G pins: AA1 PL45B/LDQ42 (io), AA2 PL45A/LDQ42 (io), M1 PL23B/LDQ25 (io), M2 PL23A/LDQ25 (io), M3 PL22A/VREF2_6/LDQ25 (io), M4 PL22B/VREF1_6/LDQ25 (io), M5 PL21A/PCLKT6_0/LDQ25 (io), M6 PL21B/PCLKC6_0/LDQ25 (io), N1 PL24A/LDQ25 (io), N2 PL24B/LDQ25 (io), N3 PL25A/LDQS25 (io), N4 PL25B/LDQ25 (io), N5 PL26A/LDQ25 (io), P1 PL27A/LLM0_GDLLT_IN_A/LDQ25 (io), P2 PL27B/LLM0_GDLLC_IN_A/LDQ25 (io), P4 PL28A/LLM0_GDLLT_FB_A/LDQ25 (io), P5 PL26B/LDQ25 (io), R1 PL30A/LLM0_GPLLT_IN_A/LDQ34 (io), R2 PL30B/LLM0_GPLLC_IN_A/LDQ34 (io), R3 PL31A/LLM0_GPLLT_FB_A/LDQ34 (io), R4 PL28B/LLM0_GDLLC_FB_A/LDQ25 (io), R6 PL40A/LDQ42 (io), R7 PL43A/LDQ42 (io), T1 PL32A/LDQ34 (io), T2 PL32B/LDQ34 (io), T3 PL33B/LDQ34 (io), T4 PL31B/LLM0_GPLLC_FB_A/LDQ34 (io), T5 PL33A/LDQ34 (io), T6 PL40B/LDQ42 (io), T7 PL43B/LDQ42 (io), U1 PL38A/LDQ42 (io), U2 PL38B/LDQ42 (io), U3 PL41A/LDQ42 (io), U4 PL41B/LDQ42 (io), V1 PL39A/LDQ42 (io), V2 PL39B/LDQ42 (io), V3 PL44B/LDQ42 (io), V4 PL44A/LDQ42 (io), W1 PL42B/LDQ42 (io), Y1 PL42A/LDQS42 (io)
part H pins: E1 PL6B/LDQ8 (io), E2 PL6A/LDQ8 (io), E3 PL4A/LDQ8 (io), E4 PL2A/VREF2_7 (io), E5 PL2B/VREF1_7 (io), F1 PL9A/LDQ8 (io), F2 PL9B/LDQ8 (io), F3 PL4B/LDQ8 (io), F4 PL5A/LDQ8 (io), F5 PL5B/LDQ8 (io), G1 PL11A/LDQ8 (io), G2 PL11B/LDQ8 (io), G3 PL10A/LDQ8 (io), G4 PL10B/LDQ8 (io), G6 PL7A/LDQ8 (io), G7 PL7B/LDQ8 (io), H1 PL12A/LDQ16 (io), H4 PL8A/LDQS8 (io), H5 PL8B/LDQ8 (io), J1 PL14B/LDQ16 (io), J2 PL14A/LDQ16 (io), J4 PL13A/LDQ16 (io), J5 PL13B/LDQ16 (io), K1 PL17B/LDQ16 (io), K2 PL17A/LDQ16 (io), K3 PL16A/LDQS16 (io), K4 PL16B/LDQ16 (io), L1 PL19B/PCLKC7_0/LDQ16 (io), L2 PL19A/PCLKT7_0/LDQ16 (io), L3 PL18B/LDQ16 (io), L4 PL18A/LDQ16 (io), L5 PL15B/LDQ16 (io), L6 PL15A/LDQ16 (io)
part I pins: R16 PR44B/WRITEN (io), R17 PR44A/CS1N (io), R18 PR38B/DOUT/CSON (io), R19 PR38A/BUSY/SISPI (io), T17 PR40B/D5 (io), T18 PR40A/D6 (io), T19 PR41A/D4 (io), T20 PR41B/D3 (io), T21 PR39B/D7 (io), T22 PR39A/DI/CSSPI0N (io), U19 PR43B/CSN (io), U20 PR43A/D0/SPIFASTN (io), U21 PR42A/D2 (io), U22 PR42B/D1/SPID6 (io)
part J pins: F12 XRES, N17 RLM0_PLLCAP, P6 LLM0_PLLCAP
part K pins: U5 TDI (in), U7 TCK (in), V5 TMS (in), V6 TDO (out), V19 CFG1 (in), V20 PROGRAMN (in), V21 DONE (io), V22 INITN (io), W19 CFG2 (in), W20 CFG0 (in), W22 CCLK (io)
part L pins: C5 VCCAUX (power), D11 VCCAUX (power), E6 VCCAUX (power), E17 VCCAUX (power), F13 VCCAUX (power), G5 VCCAUX (power), G9 VCCIO0 (power), G10 VCCIO0 (power), G11 VCCIO1 (power), G12 VCCIO1 (power), G13 VCCIO1 (power), G14 VCCIO1 (power), G18 VCCAUX (power), H8 VCCIO0 (power), H9 VCCIO0 (power), H14 VCCIO2 (power), H15 VCCIO2 (power), J8 VCCIO7 (power), J10 VCC (power), J11 VCC (power), J12 VCC (power), J13 VCC (power), J15 VCCIO2 (power), K5 VCCAUX (power), K7 VCCIO7 (power), K9 VCC (power), K14 VCC (power), K16 VCCIO2 (power), L7 VCCIO7 (power), L9 VCC (power), L14 VCC (power), L16 VCCIO3 (power), M7 VCCIO7 (power), M9 VCC (power), M14 VCC (power), M16 VCCIO3 (power), M17 VCCAUX (power), N6 VCC (power), N7 VCCIO6 (power), N9 VCC (power), N14 VCC (power), N16 VCCIO3 (power), N18 VCC (power), P7 VCCIO6 (power), P8 VCCIO6 (power), P10 VCC (power), P11 VCC (power), P12 VCC (power), P13 VCC (power), P15 VCCIO8 (power), P16 VCCIO3 (power), P17 VCCAUX (power), R5 VCCAUX (power), R8 VCCIO6 (power), R9 VCCIO5 (power), R14 VCCIO4 (power), R15 VCCIO8 (power), T8 VCCJ (power), T9 VCCIO5 (power), T10 VCCIO5 (power), T11 VCCIO5 (power), T12 VCCIO4 (power), T13 VCCIO4 (power), T14 VCCIO4 (power), V7 VCCAUX (power), V8 VCCAUX (power), V11 VCCAUX (power), V13 VCCAUX (power), V15 VCCAUX (power)
part M pins: A1 GND (power), A22 GND (power), AA4 GND (power), AA19 GND (power), AB1 GND (power), AB22 GND (power), B4 GND (power), B19 GND (power), C9 GND (power), C14 GND (power), D2 GND (power), D21 GND (power), F6 GND (power), F17 GND (power), H10 GND (power), H11 GND (power), H12 GND (power), H13 GND (power), J3 GND (power), J9 GND (power), J14 GND (power), J20 GND (power), K8 GND (power), K10 GND (power), K11 GND (power), K12 GND (power), K13 GND (power), K15 GND (power), L8 GND (power), L10 GND (power), L11 GND (power), L12 GND (power), L13 GND (power), L15 GND (power), M8 GND (power), M10 GND (power), M11 GND (power), M12 GND (power), M13 GND (power), M15 GND (power), N8 GND (power), N10 GND (power), N11 GND (power), N12 GND (power), N13 GND (power), N15 GND (power), P3 GND (power), P9 GND (power), P14 GND (power), P20 GND (power), R10 GND (power), R11 GND (power), R12 GND (power), R13 GND (power), U6 GND (power), U17 GND (power), W2 GND (power), W21 GND (power), Y9 GND (power), Y14 GND (power)
part N pins: H2 NC, H3 NC, H6 NC, H16 NC, H17 NC, H18 NC, H20 NC, J6 NC, J16 NC, K6 NC
part A text: BANK 0
part B text: BANK 1
part C text: BANK 2
part D text: BANK 3
part E text: BANK 4
part F text: BANK 5
part G text: BANK 6
part H text: BANK 7
part I text: BANK 8

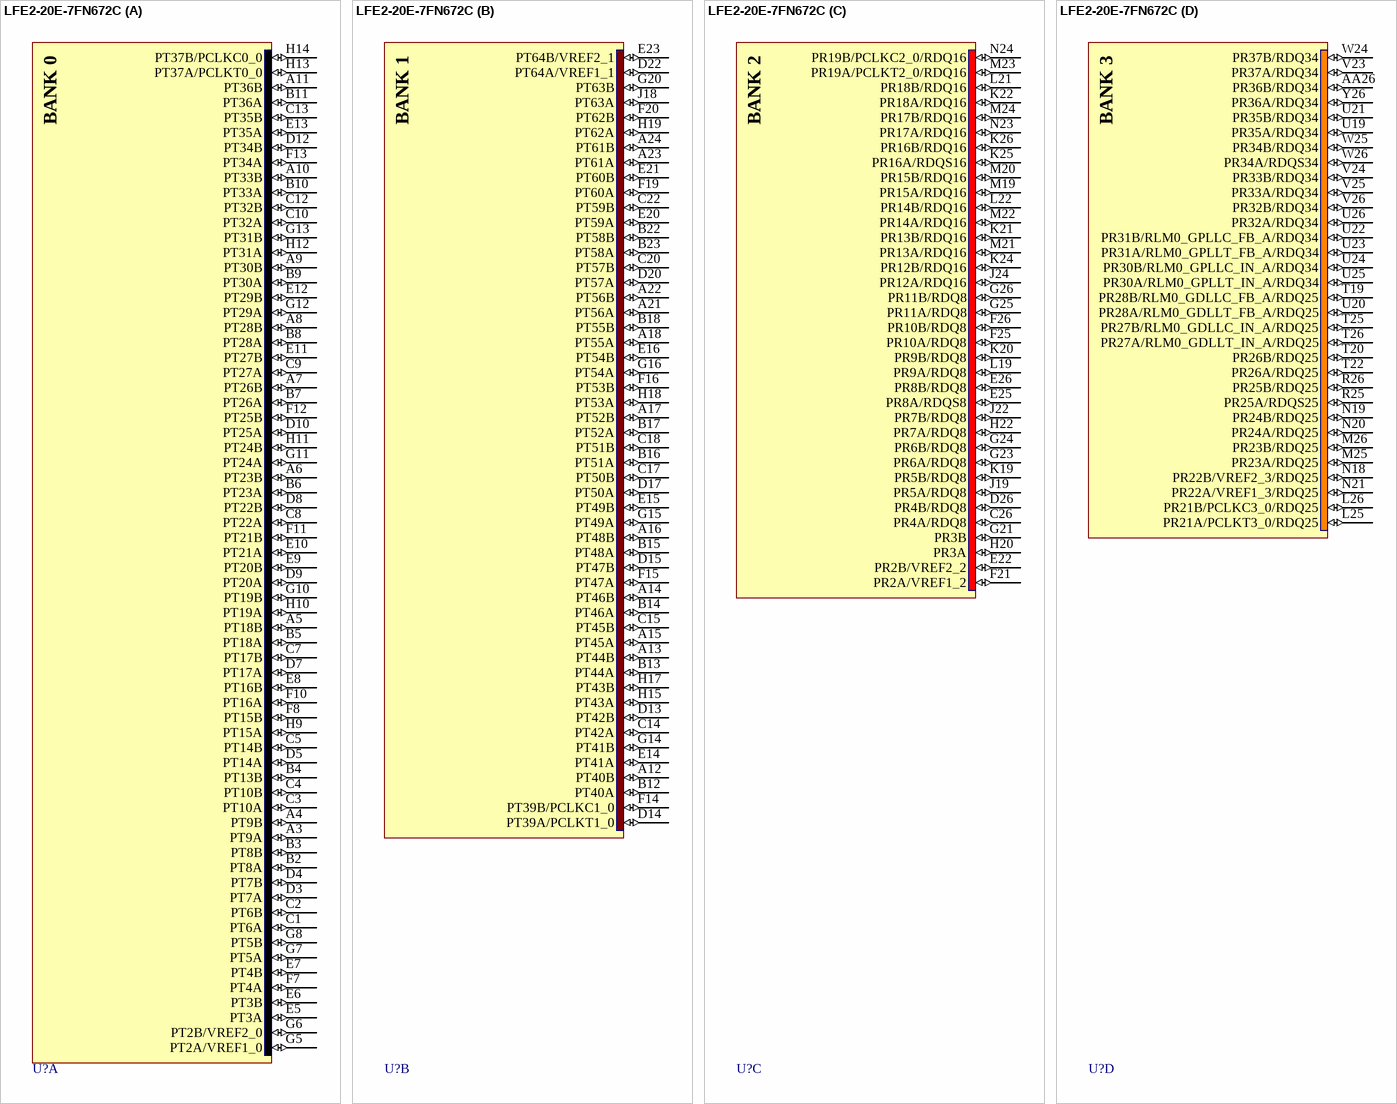
[diagram p202: symbol LFE2-20E-7FN672C]

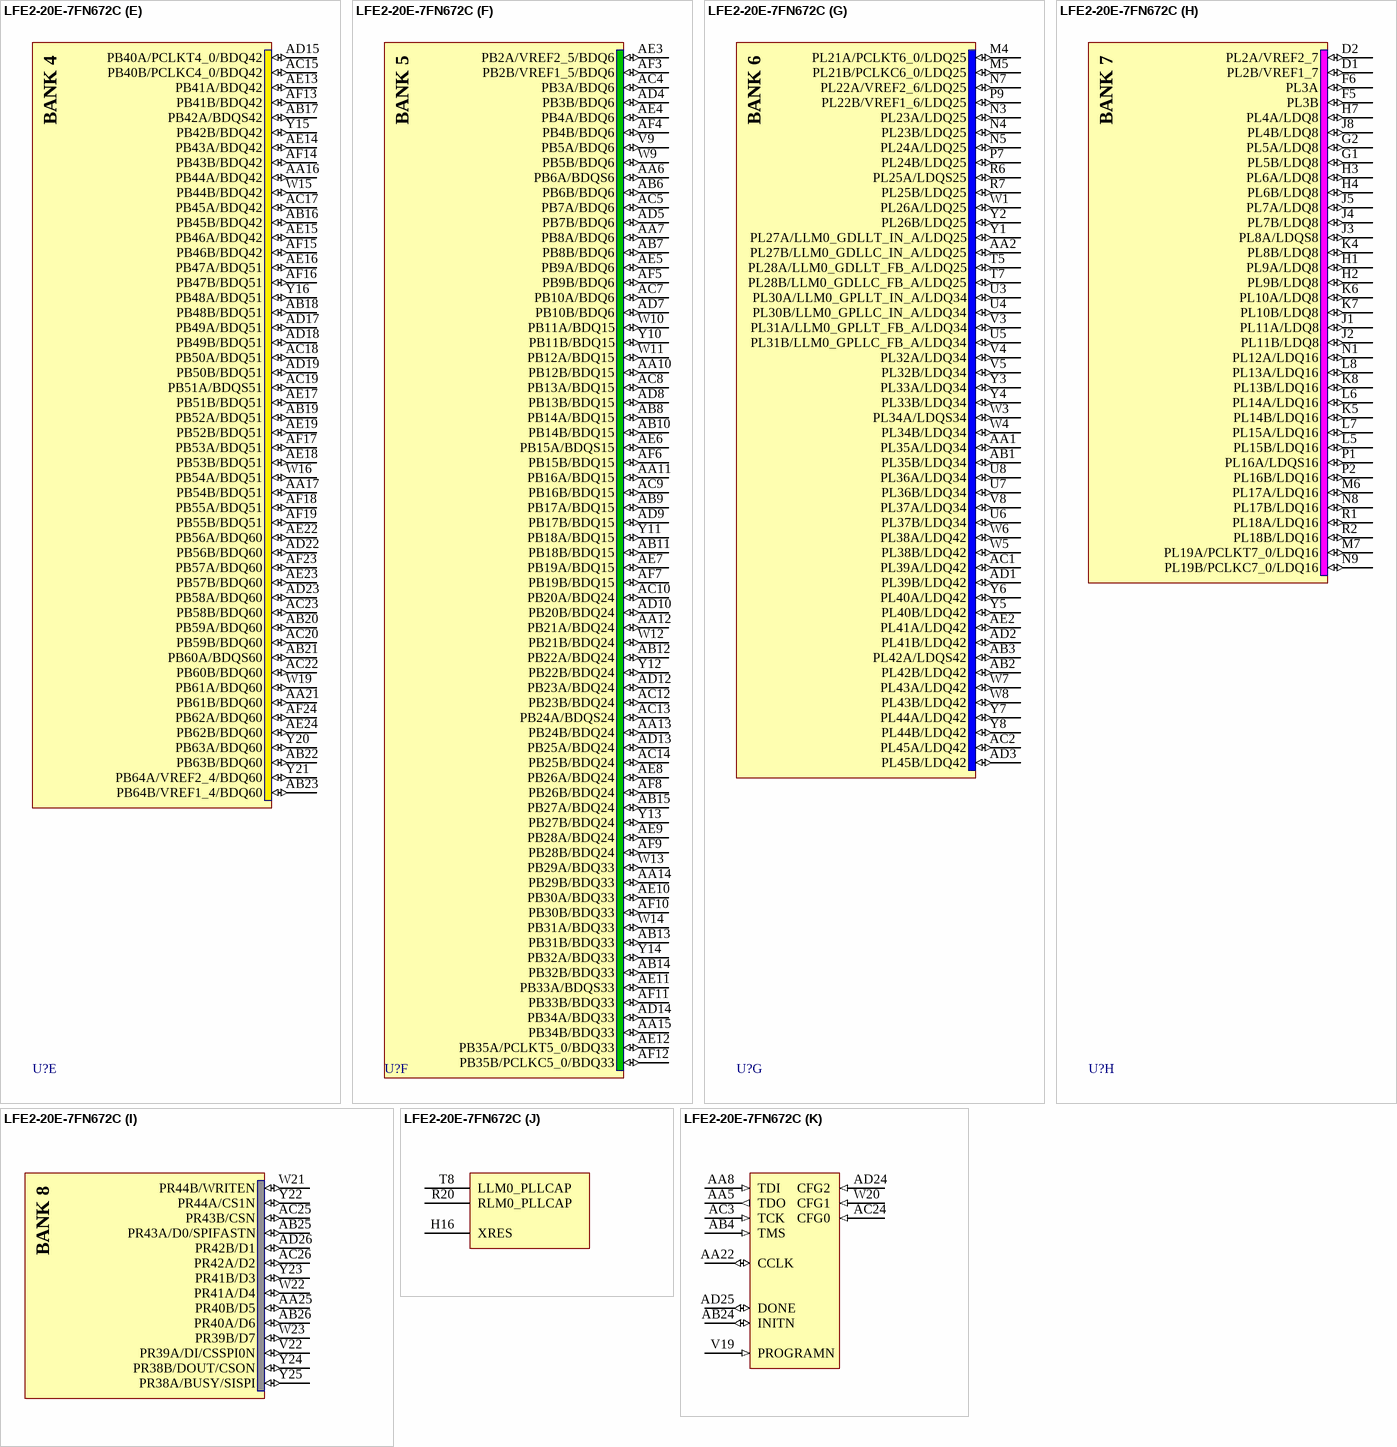
[diagram p203: symbol LFE2-20E-7FN672C]

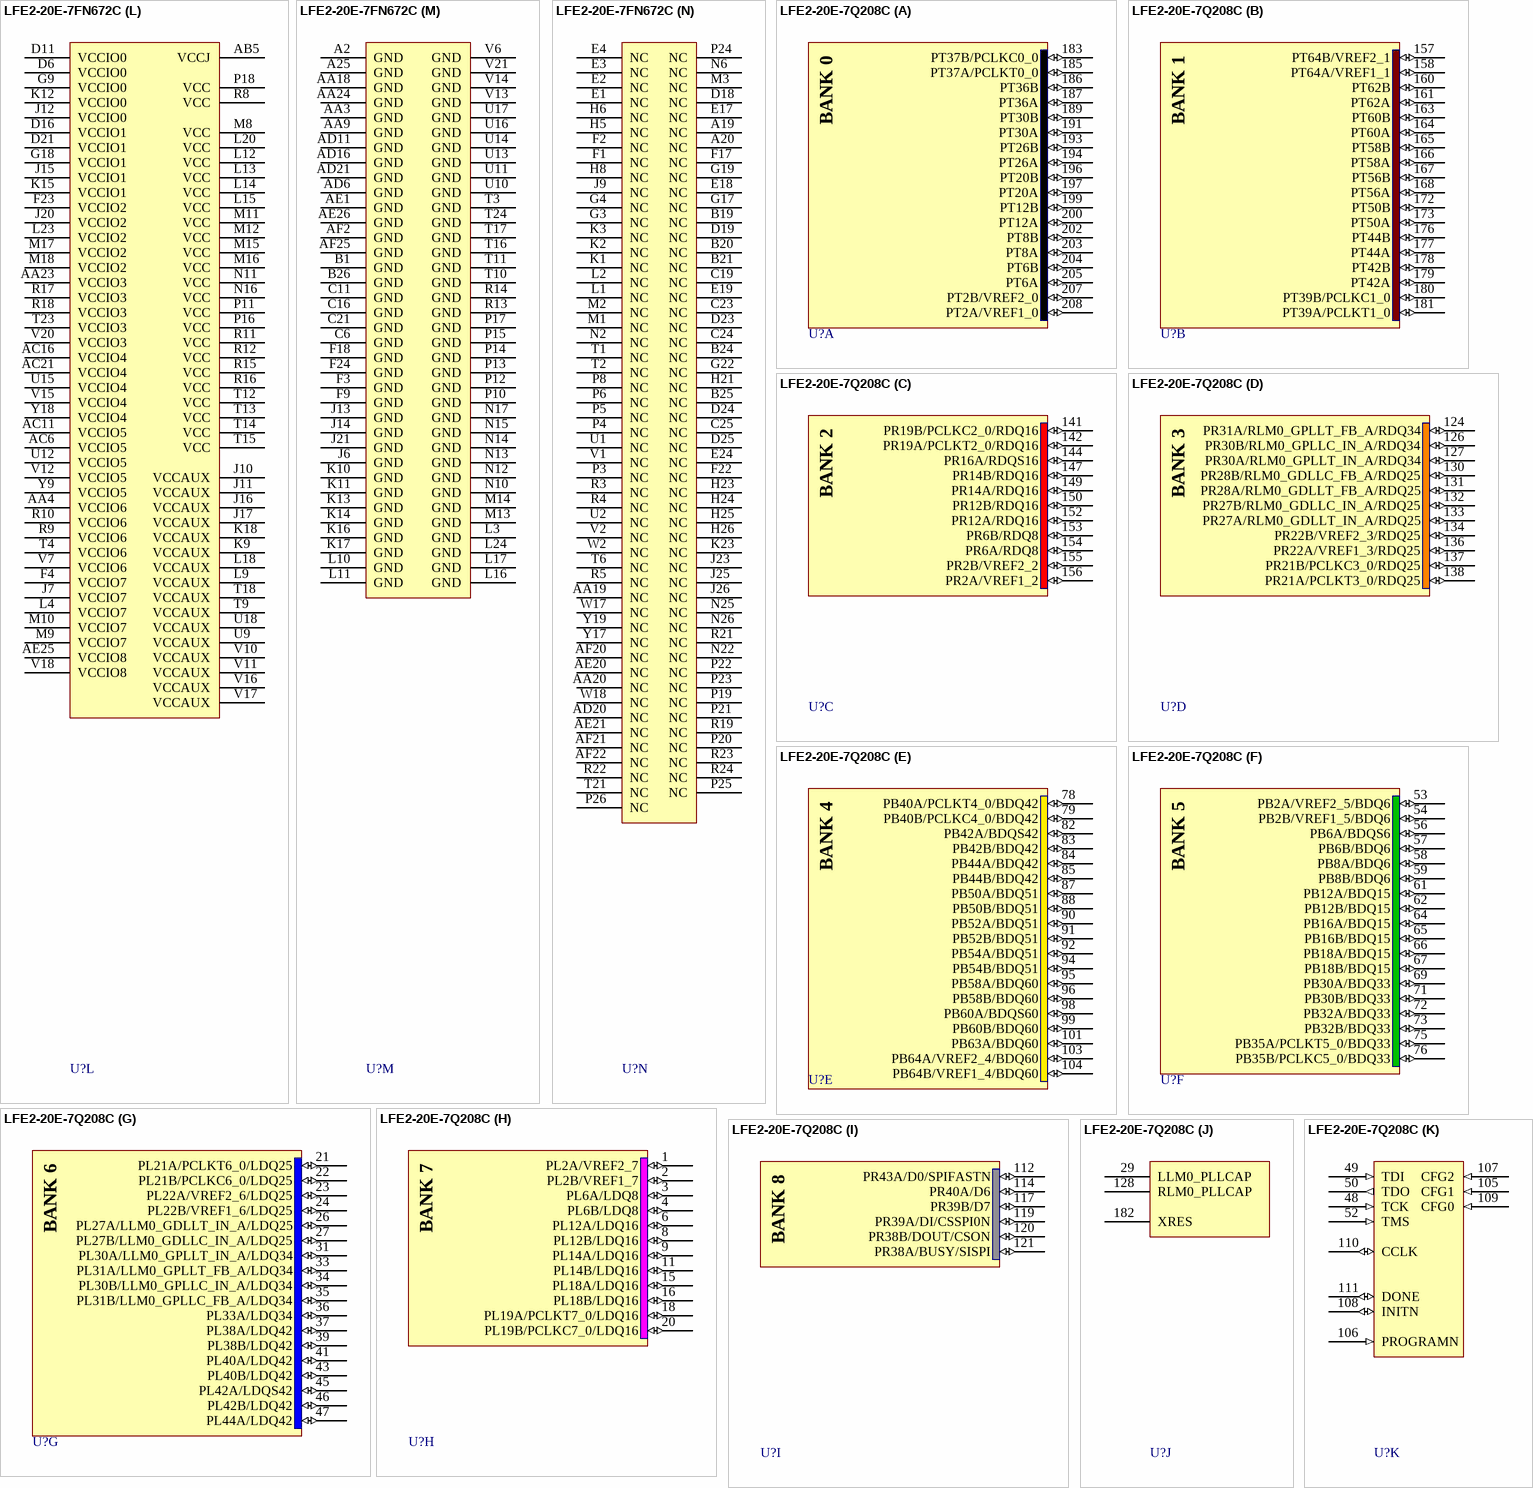
[diagram p204: symbols LFE2-20E-7FN672C to LFE2-20E-7Q208C]

## LFE2-20E-7FN672C
designator U?
ECP2 1.2V  FPGA, 402 I/Os, 20K LUTs, 672-Ball fpBGA, Speed Grade 7, Commercial Grade, Pb-Free; Published: 22-Jan-2007; LatestRevisionDate: 30-Apr-2009; LatestRevisionNote: Pin names updated.; DatasheetVersion: ver04.3, Mar-2009; PackageVersion: ver01.8, Dec-2008; PackageReference: fpBGA672; Publisher: Altium Limited; PackageDescription: 672-Ball Fine Pitch Ball Grid Array (fpBGA672); ComponentLink1Description: Manufacturer Link; ComponentLink1URL: http://www.latticesemi.com/products/fpga/ecp2/index.cfm; ComponentLink2Description: Datasheet; ComponentLink2URL: http://www.latticesemi.com/documents/HB1003.pdf
footprint fpBGA672 (BGA, 672-Leads, Body 27x27mm, Pitch 1mm)
3D model LFE2-20E_F672 (672-Ball Fine Pitch Ball Grid Array (fpBGA672))
part A pins: A3 PT9A (io), A4 PT9B (io), A5 PT18B (io), A6 PT23B (io), A7 PT26B (io), A8 PT28B (io), A9 PT30B (io), A10 PT33B (io), A11 PT36B (io), B2 PT8A (io), B3 PT8B (io), B4 PT13B (io), B5 PT18A (io), B6 PT23A (io), B7 PT26A (io), B8 PT28A (io), B9 PT30A (io), B10 PT33A (io), B11 PT36A (io), C1 PT6A (io), C2 PT6B (io), C3 PT10A (io), C4 PT10B (io), C5 PT14B (io), C7 PT17B (io), C8 PT22A (io), C9 PT27A (io), C10 PT32A (io), C12 PT32B (io), C13 PT35B (io), D3 PT7A (io), D4 PT7B (io), D5 PT14A (io), D7 PT17A (io), D8 PT22B (io), D9 PT20A (io), D10 PT25A (io), D12 PT34B (io), E5 PT3A (io), E6 PT3B (io), E7 PT4B (io), E8 PT16B (io), E9 PT20B (io), E10 PT21A (io), E11 PT27B (io), E12 PT29B (io), E13 PT35A (io), F7 PT4A (io), F8 PT15B (io), F10 PT16A (io), F11 PT21B (io), F12 PT25B (io), F13 PT34A (io), G5 PT2A/VREF1_0 (io), G6 PT2B/VREF2_0 (io), G7 PT5A (io), G8 PT5B (io), G10 PT19B (io), G11 PT24A (io), G12 PT29A (io), G13 PT31B (io), H9 PT15A (io), H10 PT19A (io), H11 PT24B (io), H12 PT31A (io), H13 PT37A/PCLKT0_0 (io), H14 PT37B/PCLKC0_0 (io)
part B pins: A12 PT40B (io), A13 PT44B (io), A14 PT46B (io), A15 PT45A (io), A16 PT48B (io), A17 PT52B (io), A18 PT55A (io), A21 PT56A (io), A22 PT56B (io), A23 PT61A (io), A24 PT61B (io), B12 PT40A (io), B13 PT44A (io), B14 PT46A (io), B15 PT48A (io), B16 PT51A (io), B17 PT52A (io), B18 PT55B (io), B22 PT58B (io), B23 PT58A (io), C14 PT42A (io), C15 PT45B (io), C17 PT50B (io), C18 PT51B (io), C20 PT57B (io), C22 PT59B (io), D13 PT42B (io), D14 PT39A/PCLKT1_0 (io), D15 PT47B (io), D17 PT50A (io), D20 PT57A (io), D22 PT64A/VREF1_1 (io), E14 PT41A (io), E15 PT49B (io), E16 PT54B (io), E20 PT59A (io), E21 PT60B (io), E23 PT64B/VREF2_1 (io), F14 PT39B/PCLKC1_0 (io), F15 PT47A (io), F16 PT53B (io), F19 PT60A (io), F20 PT62B (io), G14 PT41B (io), G15 PT49A (io), G16 PT54A (io), G20 PT63B (io), H15 PT43A (io), H17 PT43B (io), H18 PT53A (io), H19 PT62A (io), J18 PT63A (io)
part C pins: C26 PR4A/RDQ8 (io), D26 PR4B/RDQ8 (io), E22 PR2B/VREF2_2 (io), E25 PR8A/RDQS8 (io), E26 PR8B/RDQ8 (io), F21 PR2A/VREF1_2 (io), F25 PR10A/RDQ8 (io), F26 PR10B/RDQ8 (io), G21 PR3B (io), G23 PR6A/RDQ8 (io), G24 PR6B/RDQ8 (io), G25 PR11A/RDQ8 (io), G26 PR11B/RDQ8 (io), H20 PR3A (io), H22 PR7A/RDQ8 (io), J19 PR5A/RDQ8 (io), J22 PR7B/RDQ8 (io), J24 PR12A/RDQ16 (io), K19 PR5B/RDQ8 (io), K20 PR9B/RDQ8 (io), K21 PR13B/RDQ16 (io), K22 PR18A/RDQ16 (io), K24 PR12B/RDQ16 (io), K25 PR16A/RDQS16 (io), K26 PR16B/RDQ16 (io), L19 PR9A/RDQ8 (io), L21 PR18B/RDQ16 (io), L22 PR14B/RDQ16 (io), M19 PR15A/RDQ16 (io), M20 PR15B/RDQ16 (io), M21 PR13A/RDQ16 (io), M22 PR14A/RDQ16 (io), M23 PR19A/PCLKT2_0/RDQ16 (io), M24 PR17B/RDQ16 (io), N23 PR17A/RDQ16 (io), N24 PR19B/PCLKC2_0/RDQ16 (io)
part D pins: AA26 PR36B/RDQ34 (io), L25 PR21A/PCLKT3_0/RDQ25 (io), L26 PR21B/PCLKC3_0/RDQ25 (io), M25 PR23A/RDQ25 (io), M26 PR23B/RDQ25 (io), N18 PR22B/VREF2_3/RDQ25 (io), N19 PR24B/RDQ25 (io), N20 PR24A/RDQ25 (io), N21 PR22A/VREF1_3/RDQ25 (io), R25 PR25A/RDQS25 (io), R26 PR25B/RDQ25 (io), T19 PR28B/RLM0_GDLLC_FB_A/RDQ25 (io), T20 PR26B/RDQ25 (io), T22 PR26A/RDQ25 (io), T25 PR27B/RLM0_GDLLC_IN_A/RDQ25 (io), T26 PR27A/RLM0_GDLLT_IN_A/RDQ25 (io), U19 PR35A/RDQ34 (io), U20 PR28A/RLM0_GDLLT_FB_A/RDQ25 (io), U21 PR35B/RDQ34 (io), U22 PR31B/RLM0_GPLLC_FB_A/RDQ34 (io), U23 PR31A/RLM0_GPLLT_FB_A/RDQ34 (io), U24 PR30B/RLM0_GPLLC_IN_A/RDQ34 (io), U25 PR30A/RLM0_GPLLT_IN_A/RDQ34 (io), U26 PR32A/RDQ34 (io), V23 PR37A/RDQ34 (io), V24 PR33B/RDQ34 (io), V25 PR33A/RDQ34 (io), V26 PR32B/RDQ34 (io), W24 PR37B/RDQ34 (io), W25 PR34B/RDQ34 (io), W26 PR34A/RDQS34 (io), Y26 PR36A/RDQ34 (io)
part E pins: AA16 PB44A/BDQ42 (io), AA17 PB54B/BDQ51 (io), AA21 PB61B/BDQ60 (io), AB16 PB45B/BDQ42 (io), AB17 PB42A/BDQS42 (io), AB18 PB48B/BDQ51 (io), AB19 PB52A/BDQ51 (io), AB20 PB59A/BDQ60 (io), AB21 PB60A/BDQS60 (io), AB22 PB63B/BDQ60 (io), AB23 PB64B/VREF1_4/BDQ60 (io), AC15 PB40B/PCLKC4_0/BDQ42 (io), AC17 PB45A/BDQ42 (io), AC18 PB50A/BDQ51 (io), AC19 PB51A/BDQS51 (io), AC20 PB59B/BDQ60 (io), AC22 PB60B/BDQ60 (io), AC23 PB58B/BDQ60 (io), AD15 PB40A/PCLKT4_0/BDQ42 (io), AD17 PB49A/BDQ51 (io), AD18 PB49B/BDQ51 (io), AD19 PB50B/BDQ51 (io), AD22 PB56B/BDQ60 (io), AD23 PB58A/BDQ60 (io), AE13 PB41A/BDQ42 (io), AE14 PB43A/BDQ42 (io), AE15 PB46A/BDQ42 (io), AE16 PB47A/BDQ51 (io), AE17 PB51B/BDQ51 (io), AE18 PB53B/BDQ51 (io), AE19 PB52B/BDQ51 (io), AE22 PB56A/BDQ60 (io), AE23 PB57B/BDQ60 (io), AE24 PB62B/BDQ60 (io), AF13 PB41B/BDQ42 (io), AF14 PB43B/BDQ42 (io), AF15 PB46B/BDQ42 (io), AF16 PB47B/BDQ51 (io), AF17 PB53A/BDQ51 (io), AF18 PB55A/BDQ51 (io), AF19 PB55B/BDQ51 (io), AF23 PB57A/BDQ60 (io), AF24 PB62A/BDQ60 (io), W15 PB44B/BDQ42 (io), W16 PB54A/BDQ51 (io), W19 PB61A/BDQ60 (io), Y15 PB42B/BDQ42 (io), Y16 PB48A/BDQ51 (io), Y20 PB63A/BDQ60 (io), Y21 PB64A/VREF2_4/BDQ60 (io)
part F pins: AA6 PB6A/BDQS6 (io), AA7 PB8A/BDQ6 (io), AA10 PB12B/BDQ15 (io), AA11 PB16A/BDQ15 (io), AA12 PB21A/BDQ24 (io), AA13 PB24B/BDQ24 (io), AA14 PB29B/BDQ33 (io), AA15 PB34B/BDQ33 (io), AB6 PB6B/BDQ6 (io), AB7 PB8B/BDQ6 (io), AB8 PB14A/BDQ15 (io), AB9 PB17A/BDQ15 (io), AB10 PB14B/BDQ15 (io), AB11 PB18B/BDQ15 (io), AB12 PB22A/BDQ24 (io), AB13 PB31B/BDQ33 (io), AB14 PB32B/BDQ33 (io), AB15 PB27A/BDQ24 (io), AC4 PB3A/BDQ6 (io), AC5 PB7A/BDQ6 (io), AC7 PB10A/BDQ6 (io), AC8 PB13A/BDQ15 (io), AC9 PB16B/BDQ15 (io), AC10 PB20A/BDQ24 (io), AC12 PB23B/BDQ24 (io), AC13 PB24A/BDQS24 (io), AC14 PB25B/BDQ24 (io), AD4 PB3B/BDQ6 (io), AD5 PB7B/BDQ6 (io), AD7 PB10B/BDQ6 (io), AD8 PB13B/BDQ15 (io), AD9 PB17B/BDQ15 (io), AD10 PB20B/BDQ24 (io), AD12 PB23A/BDQ24 (io), AD13 PB25A/BDQ24 (io), AD14 PB34A/BDQ33 (io), AE3 PB2A/VREF2_5/BDQ6 (io), AE4 PB4A/BDQ6 (io), AE5 PB9A/BDQ6 (io), AE6 PB15A/BDQS15 (io), AE7 PB19A/BDQ15 (io), AE8 PB26A/BDQ24 (io), AE9 PB28A/BDQ24 (io), AE10 PB30A/BDQ33 (io), AE11 PB33A/BDQS33 (io), AE12 PB35A/PCLKT5_0/BDQ33 (io), AF3 PB2B/VREF1_5/BDQ6 (io), AF4 PB4B/BDQ6 (io), AF5 PB9B/BDQ6 (io), AF6 PB15B/BDQ15 (io), AF7 PB19B/BDQ15 (io), AF8 PB26B/BDQ24 (io), AF9 PB28B/BDQ24 (io), AF10 PB30B/BDQ33 (io), AF11 PB33B/BDQ33 (io), AF12 PB35B/PCLKC5_0/BDQ33 (io), V9 PB5A/BDQ6 (io), W9 PB5B/BDQ6 (io), W10 PB11A/BDQ15 (io), W11 PB12A/BDQ15 (io), W12 PB21B/BDQ24 (io), W13 PB29A/BDQ33 (io), W14 PB31A/BDQ33 (io), Y10 PB11B/BDQ15 (io), Y11 PB18A/BDQ15 (io), Y12 PB22B/BDQ24 (io), Y13 PB27B/BDQ24 (io), Y14 PB32A/BDQ33 (io)
part G pins: AA1 PL35A/LDQ34 (io), AA2 PL27B/LLM0_GDLLC_IN_A/LDQ25 (io), AB1 PL35B/LDQ34 (io), AB2 PL42B/LDQ42 (io), AB3 PL42A/LDQS42 (io), AC1 PL39A/LDQ42 (io), AC2 PL45A/LDQ42 (io), AD1 PL39B/LDQ42 (io), AD2 PL41B/LDQ42 (io), AD3 PL45B/LDQ42 (io), AE2 PL41A/LDQ42 (io), M4 PL21A/PCLKT6_0/LDQ25 (io), M5 PL21B/PCLKC6_0/LDQ25 (io), N3 PL23A/LDQ25 (io), N4 PL23B/LDQ25 (io), N5 PL24A/LDQ25 (io), N7 PL22A/VREF2_6/LDQ25 (io), P7 PL24B/LDQ25 (io), P9 PL22B/VREF1_6/LDQ25 (io), R6 PL25A/LDQS25 (io), R7 PL25B/LDQ25 (io), T5 PL28A/LLM0_GDLLT_FB_A/LDQ25 (io), T7 PL28B/LLM0_GDLLC_FB_A/LDQ25 (io), U3 PL30A/LLM0_GPLLT_IN_A/LDQ34 (io), U4 PL30B/LLM0_GPLLC_IN_A/LDQ34 (io), U5 PL31B/LLM0_GPLLC_FB_A/LDQ34 (io), U6 PL37B/LDQ34 (io), U7 PL36B/LDQ34 (io), U8 PL36A/LDQ34 (io), V3 PL31A/LLM0_GPLLT_FB_A/LDQ34 (io), V4 PL32A/LDQ34 (io), V5 PL32B/LDQ34 (io), V8 PL37A/LDQ34 (io), W1 PL26A/LDQ25 (io), W3 PL34A/LDQS34 (io), W4 PL34B/LDQ34 (io), W5 PL38B/LDQ42 (io), W6 PL38A/LDQ42 (io), W7 PL43A/LDQ42 (io), W8 PL43B/LDQ42 (io), Y1 PL27A/LLM0_GDLLT_IN_A/LDQ25 (io), Y2 PL26B/LDQ25 (io), Y3 PL33A/LDQ34 (io), Y4 PL33B/LDQ34 (io), Y5 PL40B/LDQ42 (io), Y6 PL40A/LDQ42 (io), Y7 PL44A/LDQ42 (io), Y8 PL44B/LDQ42 (io)
part H pins: D1 PL2B/VREF1_7 (io), D2 PL2A/VREF2_7 (io), F5 PL3B (io), F6 PL3A (io), G1 PL5B/LDQ8 (io), G2 PL5A/LDQ8 (io), H1 PL9A/LDQ8 (io), H2 PL9B/LDQ8 (io), H3 PL6A/LDQ8 (io), H4 PL6B/LDQ8 (io), H7 PL4A/LDQ8 (io), J1 PL11A/LDQ8 (io), J2 PL11B/LDQ8 (io), J3 PL8A/LDQS8 (io), J4 PL7B/LDQ8 (io), J5 PL7A/LDQ8 (io), J8 PL4B/LDQ8 (io), K4 PL8B/LDQ8 (io), K5 PL14B/LDQ16 (io), K6 PL10A/LDQ8 (io), K7 PL10B/LDQ8 (io), K8 PL13B/LDQ16 (io), L5 PL15B/LDQ16 (io), L6 PL14A/LDQ16 (io), L7 PL15A/LDQ16 (io), L8 PL13A/LDQ16 (io), M6 PL17A/LDQ16 (io), M7 PL19A/PCLKT7_0/LDQ16 (io), N1 PL12A/LDQ16 (io), N8 PL17B/LDQ16 (io), N9 PL19B/PCLKC7_0/LDQ16 (io), P1 PL16A/LDQS16 (io), P2 PL16B/LDQ16 (io), R1 PL18A/LDQ16 (io), R2 PL18B/LDQ16 (io)
part I pins: AA25 PR40B/D5 (io), AB25 PR43A/D0/SPIFASTN (io), AB26 PR40A/D6 (io), AC25 PR43B/CSN (io), AC26 PR42A/D2 (io), AD26 PR42B/D1 (io), V22 PR39A/DI/CSSPI0N (io), W21 PR44B/WRITEN (io), W22 PR41A/D4 (io), W23 PR39B/D7 (io), Y22 PR44A/CS1N (io), Y23 PR41B/D3 (io), Y24 PR38B/DOUT/CSON (io), Y25 PR38A/BUSY/SISPI (io)
part J pins: H16 XRES, R20 RLM0_PLLCAP, T8 LLM0_PLLCAP
part K pins: AA5 TDO (out), AA8 TDI (in), AA22 CCLK (io), AB4 TMS (in), AB24 INITN (io), AC3 TCK (in), AC24 CFG0 (in), AD24 CFG2 (in), AD25 DONE (io), V19 PROGRAMN (in), W20 CFG1 (in)
part L pins: AA4 VCCIO6 (power), AA23 VCCIO3 (power), AB5 VCCJ (power), AC6 VCCIO5 (power), AC11 VCCIO5 (power), AC16 VCCIO4 (power), AC21 VCCIO4 (power), AE25 VCCIO8 (power), D6 VCCIO0 (power), D11 VCCIO0 (power), D16 VCCIO1 (power), D21 VCCIO1 (power), F4 VCCIO7 (power), F23 VCCIO2 (power), G9 VCCIO0 (power), G18 VCCIO1 (power), J7 VCCIO7 (power), J10 VCCAUX (power), J11 VCCAUX (power), J12 VCCIO0 (power), J15 VCCIO1 (power), J16 VCCAUX (power), J17 VCCAUX (power), J20 VCCIO2 (power), K9 VCCAUX (power), K12 VCCIO0 (power), K15 VCCIO1 (power), K18 VCCAUX (power), L4 VCCIO7 (power), L9 VCCAUX (power), L12 VCC (power), L13 VCC (power), L14 VCC (power), L15 VCC (power), L18 VCCAUX (power), L20 VCC (power), L23 VCCIO2 (power), M8 VCC (power), M9 VCCIO7 (power), M10 VCCIO7 (power), M11 VCC (power), M12 VCC (power), M15 VCC (power), M16 VCC (power), M17 VCCIO2 (power), M18 VCCIO2 (power), N11 VCC (power), N16 VCC (power), P11 VCC (power), P16 VCC (power), P18 VCC (power), R8 VCC (power), R9 VCCIO6 (power), R10 VCCIO6 (power), R11 VCC (power), R12 VCC (power), R15 VCC (power), R16 VCC (power), R17 VCCIO3 (power), R18 VCCIO3 (power), T4 VCCIO6 (power), T9 VCCAUX (power), T12 VCC (power), T13 VCC (power), T14 VCC (power), T15 VCC (power), T18 VCCAUX (power), T23 VCCIO3 (power), U9 VCCAUX (power), U12 VCCIO5 (power), U15 VCCIO4 (power), U18 VCCAUX (power), V7 VCCIO6 (power), V10 VCCAUX (power), V11 VCCAUX (power), V12 VCCIO5 (power), V15 VCCIO4 (power), V16 VCCAUX (power), V17 VCCAUX (power), V18 VCCIO8 (power), V20 VCCIO3 (power), Y9 VCCIO5 (power), Y18 VCCIO4 (power)
part M pins: A2 GND (power), A25 GND (power), AA3 GND (power), AA9 GND (power), AA18 GND (power), AA24 GND (power), AD6 GND (power), AD11 GND (power), AD16 GND (power), AD21 GND (power), AE1 GND (power), AE26 GND (power), AF2 GND (power), AF25 GND (power), B1 GND (power), B26 GND (power), C6 GND (power), C11 GND (power), C16 GND (power), C21 GND (power), F3 GND (power), F9 GND (power), F18 GND (power), F24 GND (power), J6 GND (power), J13 GND (power), J14 GND (power), J21 GND (power), K10 GND (power), K11 GND (power), K13 GND (power), K14 GND (power), K16 GND (power), K17 GND (power), L3 GND (power), L10 GND (power), L11 GND (power), L16 GND (power), L17 GND (power), L24 GND (power), M13 GND (power), M14 GND (power), N10 GND (power), N12 GND (power), N13 GND (power), N14 GND (power), N15 GND (power), N17 GND (power), P10 GND (power), P12 GND (power), P13 GND (power), P14 GND (power), P15 GND (power), P17 GND (power), R13 GND (power), R14 GND (power), T3 GND (power), T10 GND (power), T11 GND (power), T16 GND (power), T17 GND (power), T24 GND (power), U10 GND (power), U11 GND (power), U13 GND (power), U14 GND (power), U16 GND (power), U17 GND (power), V6 GND (power), V13 GND (power), V14 GND (power), V21 GND (power)
part N pins: A19 NC, A20 NC, AA19 NC, AA20 NC, AD20 NC, AE20 NC, AE21 NC, AF20 NC, AF21 NC, AF22 NC, B19 NC, B20 NC, B21 NC, B24 NC, B25 NC, C19 NC, C23 NC, C24 NC, C25 NC, D18 NC, D19 NC, D23 NC, D24 NC, D25 NC, E1 NC, E2 NC, E3 NC, E4 NC, E17 NC, E18 NC, E19 NC, E24 NC, F1 NC, F2 NC, F17 NC, F22 NC, G3 NC, G4 NC, G17 NC, G19 NC, G22 NC, H5 NC, H6 NC, H8 NC, H21 NC, H23 NC, H24 NC, H25 NC, H26 NC, J9 NC, J23 NC, J25 NC, J26 NC, K1 NC, K2 NC, K3 NC, K23 NC, L1 NC, L2 NC, M1 NC, M2 NC, M3 NC, N2 NC, N6 NC, N22 NC, N25 NC, N26 NC, P3 NC, P4 NC, P5 NC, P6 NC, P8 NC, P19 NC, P20 NC, P21 NC, P22 NC, P23 NC, P24 NC, P25 NC, P26 NC, R3 NC, R4 NC, R5 NC, R19 NC, R21 NC, R22 NC, R23 NC, R24 NC, T1 NC, T2 NC, T6 NC, T21 NC, U1 NC, U2 NC, V1 NC, V2 NC, W2 NC, W17 NC, W18 NC, Y17 NC, Y19 NC
part A text: BANK 0
part B text: BANK 1
part C text: BANK 2
part D text: BANK 3
part E text: BANK 4
part F text: BANK 5
part G text: BANK 6
part H text: BANK 7
part I text: BANK 8

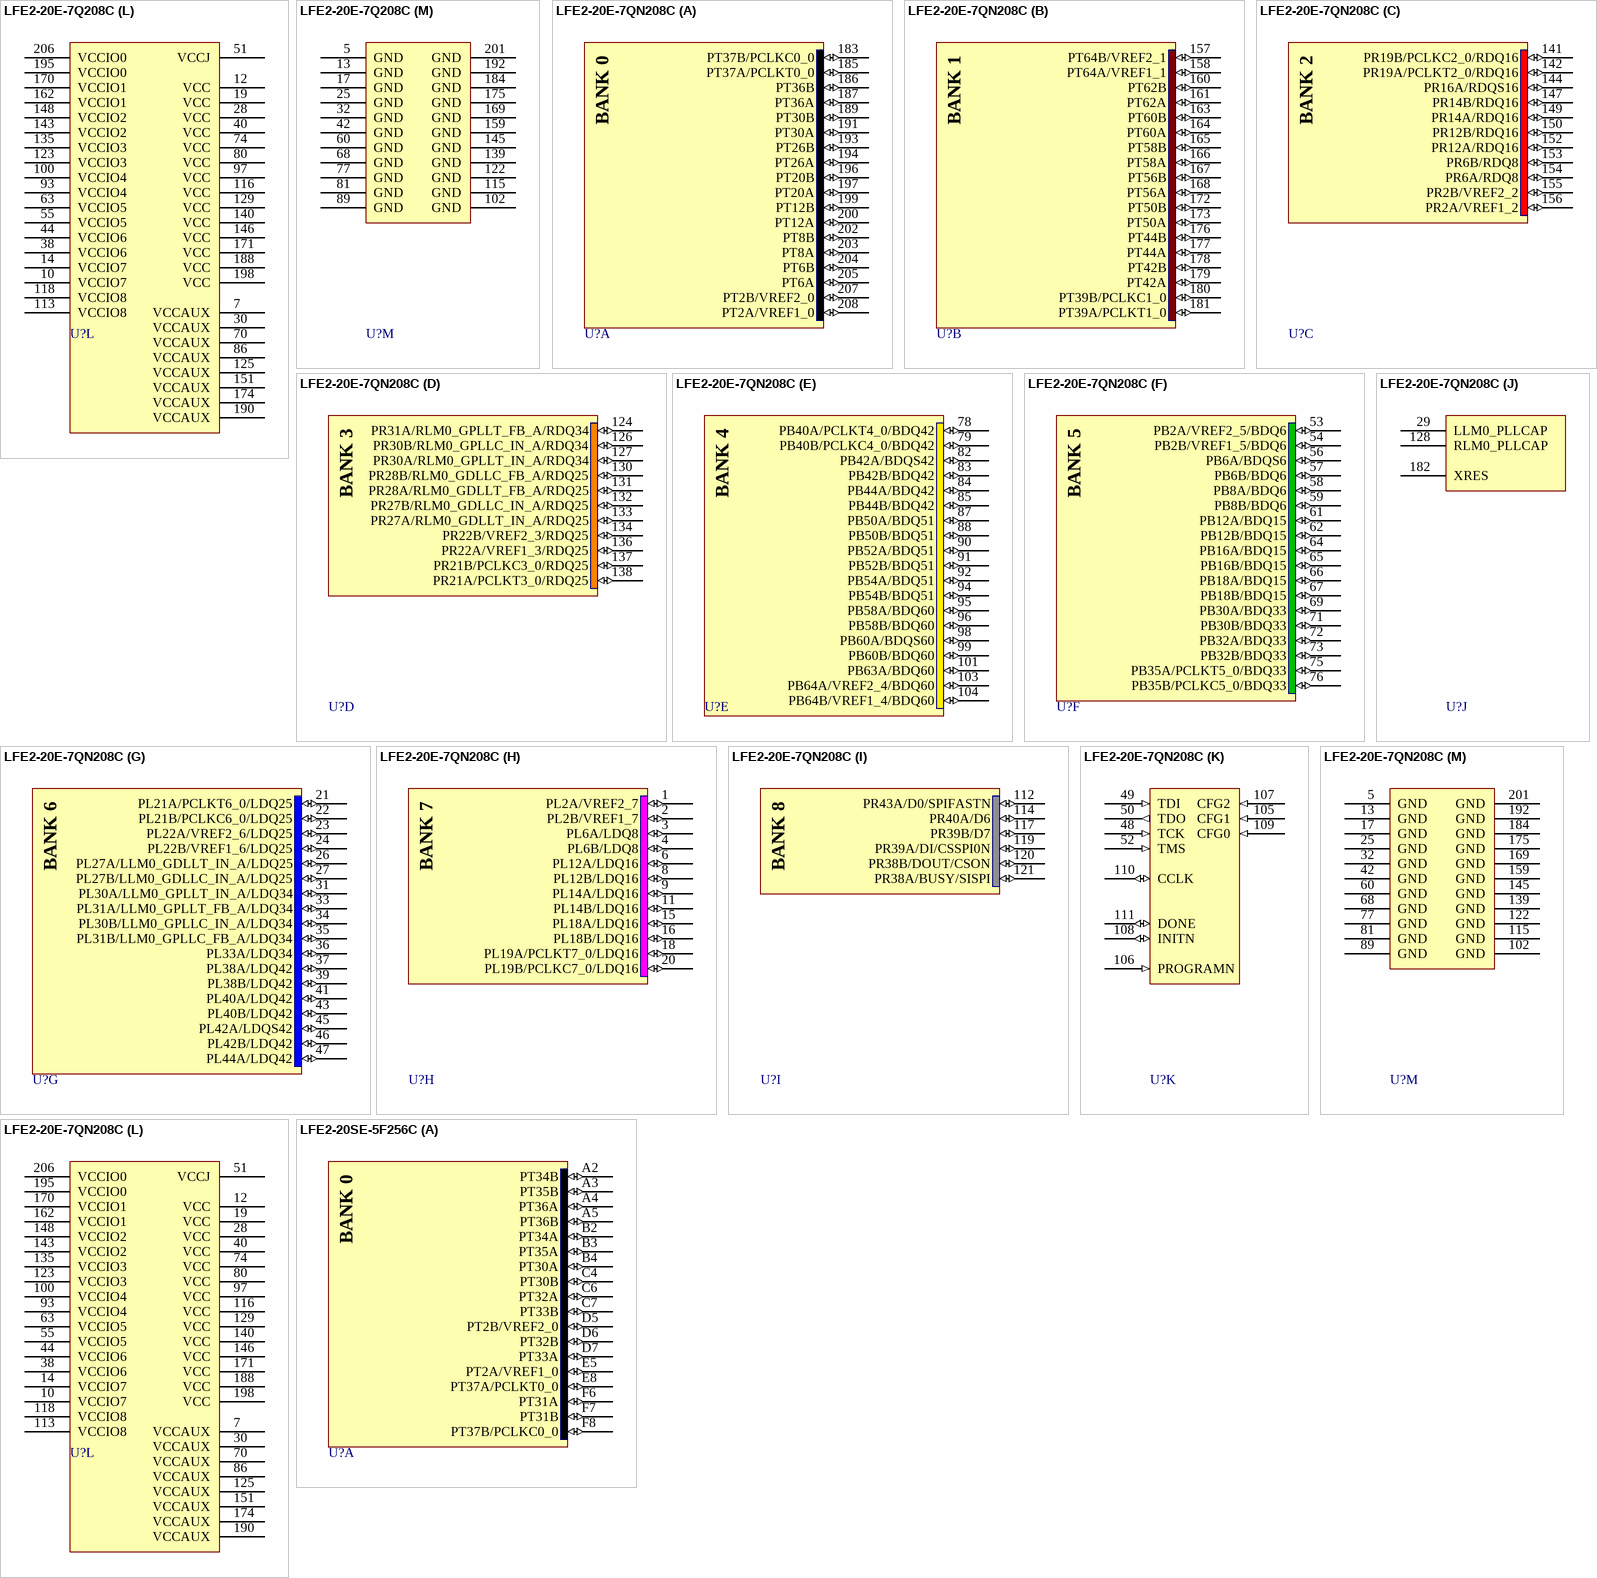
[diagram p205: symbols LFE2-20E-7Q208C to LFE2-20SE-5F256C]

## LFE2-20E-7Q208C
designator U?
ECP2 1.2V  FPGA, 131 I/Os, 20K LUTs, 208-Pin PQFP, Speed Grade 7, Commercial Grade; Published: 22-Jan-2007; LatestRevisionDate: 30-Apr-2009; LatestRevisionNote: Pin names updated. Pins 131 & 132 swapped.; DatasheetVersion: ver04.3, Mar-2009; PackageVersion: ver01.8, Dec-2008; PackageReference: PQFP208; Publisher: Altium Limited; PackageDescription: 208-Pin Plastic Quad Flat Pack (PQFP208); Code_JEDEC: MO-143-FAI; ComponentLink1Description: Manufacturer Link; ComponentLink1URL: http://www.latticesemi.com/products/fpga/ecp2/index.cfm; ComponentLink2Description: Datasheet; ComponentLink2URL: http://www.latticesemi.com/documents/HB1003.pdf
footprint PQFP208_N (Shrink QFP, 208-Leads, Body 28x28mm, Pitch 0.5mm, IPC Medium Density)
footprint PQFP208_L (Shrink QFP, 208-Leads, Body 28x28mm, Pitch 0.5mm, IPC High Density)
footprint PQFP208_M (Shrink QFP, 208-Leads, Body 28x28mm, Pitch 0.5mm, IPC Low Density)
3D model LFE2-20E_Q208 (208-Pin Plastic Quad Flat Pack (PQFP208))
part A pins: 183 PT37B/PCLKC0_0 (io), 185 PT37A/PCLKT0_0 (io), 186 PT36B (io), 187 PT36A (io), 189 PT30B (io), 191 PT30A (io), 193 PT26B (io), 194 PT26A (io), 196 PT20B (io), 197 PT20A (io), 199 PT12B (io), 200 PT12A (io), 202 PT8B (io), 203 PT8A (io), 204 PT6B (io), 205 PT6A (io), 207 PT2B/VREF2_0 (io), 208 PT2A/VREF1_0 (io)
part B pins: 157 PT64B/VREF2_1 (io), 158 PT64A/VREF1_1 (io), 160 PT62B (io), 161 PT62A (io), 163 PT60B (io), 164 PT60A (io), 165 PT58B (io), 166 PT58A (io), 167 PT56B (io), 168 PT56A (io), 172 PT50B (io), 173 PT50A (io), 176 PT44B (io), 177 PT44A (io), 178 PT42B (io), 179 PT42A (io), 180 PT39B/PCLKC1_0 (io), 181 PT39A/PCLKT1_0 (io)
part C pins: 141 PR19B/PCLKC2_0/RDQ16 (io), 142 PR19A/PCLKT2_0/RDQ16 (io), 144 PR16A/RDQS16 (io), 147 PR14B/RDQ16 (io), 149 PR14A/RDQ16 (io), 150 PR12B/RDQ16 (io), 152 PR12A/RDQ16 (io), 153 PR6B/RDQ8 (io), 154 PR6A/RDQ8 (io), 155 PR2B/VREF2_2 (io), 156 PR2A/VREF1_2 (io)
part D pins: 124 PR31A/RLM0_GPLLT_FB_A/RDQ34 (io), 126 PR30B/RLM0_GPLLC_IN_A/RDQ34 (io), 127 PR30A/RLM0_GPLLT_IN_A/RDQ34 (io), 130 PR28B/RLM0_GDLLC_FB_A/RDQ25 (io), 131 PR28A/RLM0_GDLLT_FB_A/RDQ25 (io), 132 PR27B/RLM0_GDLLC_IN_A/RDQ25 (io), 133 PR27A/RLM0_GDLLT_IN_A/RDQ25 (io), 134 PR22B/VREF2_3/RDQ25 (io), 136 PR22A/VREF1_3/RDQ25 (io), 137 PR21B/PCLKC3_0/RDQ25 (io), 138 PR21A/PCLKT3_0/RDQ25 (io)
part E pins: 78 PB40A/PCLKT4_0/BDQ42 (io), 79 PB40B/PCLKC4_0/BDQ42 (io), 82 PB42A/BDQS42 (io), 83 PB42B/BDQ42 (io), 84 PB44A/BDQ42 (io), 85 PB44B/BDQ42 (io), 87 PB50A/BDQ51 (io), 88 PB50B/BDQ51 (io), 90 PB52A/BDQ51 (io), 91 PB52B/BDQ51 (io), 92 PB54A/BDQ51 (io), 94 PB54B/BDQ51 (io), 95 PB58A/BDQ60 (io), 96 PB58B/BDQ60 (io), 98 PB60A/BDQS60 (io), 99 PB60B/BDQ60 (io), 101 PB63A/BDQ60 (io), 103 PB64A/VREF2_4/BDQ60 (io), 104 PB64B/VREF1_4/BDQ60 (io)
part F pins: 53 PB2A/VREF2_5/BDQ6 (io), 54 PB2B/VREF1_5/BDQ6 (io), 56 PB6A/BDQS6 (io), 57 PB6B/BDQ6 (io), 58 PB8A/BDQ6 (io), 59 PB8B/BDQ6 (io), 61 PB12A/BDQ15 (io), 62 PB12B/BDQ15 (io), 64 PB16A/BDQ15 (io), 65 PB16B/BDQ15 (io), 66 PB18A/BDQ15 (io), 67 PB18B/BDQ15 (io), 69 PB30A/BDQ33 (io), 71 PB30B/BDQ33 (io), 72 PB32A/BDQ33 (io), 73 PB32B/BDQ33 (io), 75 PB35A/PCLKT5_0/BDQ33 (io), 76 PB35B/PCLKC5_0/BDQ33 (io)
part G pins: 21 PL21A/PCLKT6_0/LDQ25 (io), 22 PL21B/PCLKC6_0/LDQ25 (io), 23 PL22A/VREF2_6/LDQ25 (io), 24 PL22B/VREF1_6/LDQ25 (io), 26 PL27A/LLM0_GDLLT_IN_A/LDQ25 (io), 27 PL27B/LLM0_GDLLC_IN_A/LDQ25 (io), 31 PL30A/LLM0_GPLLT_IN_A/LDQ34 (io), 33 PL31A/LLM0_GPLLT_FB_A/LDQ34 (io), 34 PL30B/LLM0_GPLLC_IN_A/LDQ34 (io), 35 PL31B/LLM0_GPLLC_FB_A/LDQ34 (io), 36 PL33A/LDQ34 (io), 37 PL38A/LDQ42 (io), 39 PL38B/LDQ42 (io), 41 PL40A/LDQ42 (io), 43 PL40B/LDQ42 (io), 45 PL42A/LDQS42 (io), 46 PL42B/LDQ42 (io), 47 PL44A/LDQ42 (io)
part H pins: 1 PL2A/VREF2_7 (io), 2 PL2B/VREF1_7 (io), 3 PL6A/LDQ8 (io), 4 PL6B/LDQ8 (io), 6 PL12A/LDQ16 (io), 8 PL12B/LDQ16 (io), 9 PL14A/LDQ16 (io), 11 PL14B/LDQ16 (io), 15 PL18A/LDQ16 (io), 16 PL18B/LDQ16 (io), 18 PL19A/PCLKT7_0/LDQ16 (io), 20 PL19B/PCLKC7_0/LDQ16 (io)
part I pins: 112 PR43A/D0/SPIFASTN (io), 114 PR40A/D6 (io), 117 PR39B/D7 (io), 119 PR39A/DI/CSSPI0N (io), 120 PR38B/DOUT/CSON (io), 121 PR38A/BUSY/SISPI (io)
part J pins: 29 LLM0_PLLCAP, 128 RLM0_PLLCAP, 182 XRES
part K pins: 48 TCK (in), 49 TDI (in), 50 TDO (out), 52 TMS (in), 105 CFG1 (in), 106 PROGRAMN (in), 107 CFG2 (in), 108 INITN (io), 109 CFG0 (in), 110 CCLK (io), 111 DONE (io)
part L pins: 7 VCCAUX (power), 10 VCCIO7 (power), 12 VCC (power), 14 VCCIO7 (power), 19 VCC (power), 28 VCC (power), 30 VCCAUX (power), 38 VCCIO6 (power), 40 VCC (power), 44 VCCIO6 (power), 51 VCCJ (power), 55 VCCIO5 (power), 63 VCCIO5 (power), 70 VCCAUX (power), 74 VCC (power), 80 VCC (power), 86 VCCAUX (power), 93 VCCIO4 (power), 97 VCC (power), 100 VCCIO4 (power), 113 VCCIO8 (power), 116 VCC (power), 118 VCCIO8 (power), 123 VCCIO3 (power), 125 VCCAUX (power), 129 VCC (power), 135 VCCIO3 (power), 140 VCC (power), 143 VCCIO2 (power), 146 VCC (power), 148 VCCIO2 (power), 151 VCCAUX (power), 162 VCCIO1 (power), 170 VCCIO1 (power), 171 VCC (power), 174 VCCAUX (power), 188 VCC (power), 190 VCCAUX (power), 195 VCCIO0 (power), 198 VCC (power), 206 VCCIO0 (power)
part M pins: 5 GND (power), 13 GND (power), 17 GND (power), 25 GND (power), 32 GND (power), 42 GND (power), 60 GND (power), 68 GND (power), 77 GND (power), 81 GND (power), 89 GND (power), 102 GND (power), 115 GND (power), 122 GND (power), 139 GND (power), 145 GND (power), 159 GND (power), 169 GND (power), 175 GND (power), 184 GND (power), 192 GND (power), 201 GND (power)
part A text: BANK 0
part B text: BANK 1
part C text: BANK 2
part D text: BANK 3
part E text: BANK 4
part F text: BANK 5
part G text: BANK 6
part H text: BANK 7
part I text: BANK 8